# Altium integrated library Microchip PIC18.IntLib: 1897 symbols (part 37 of 110)
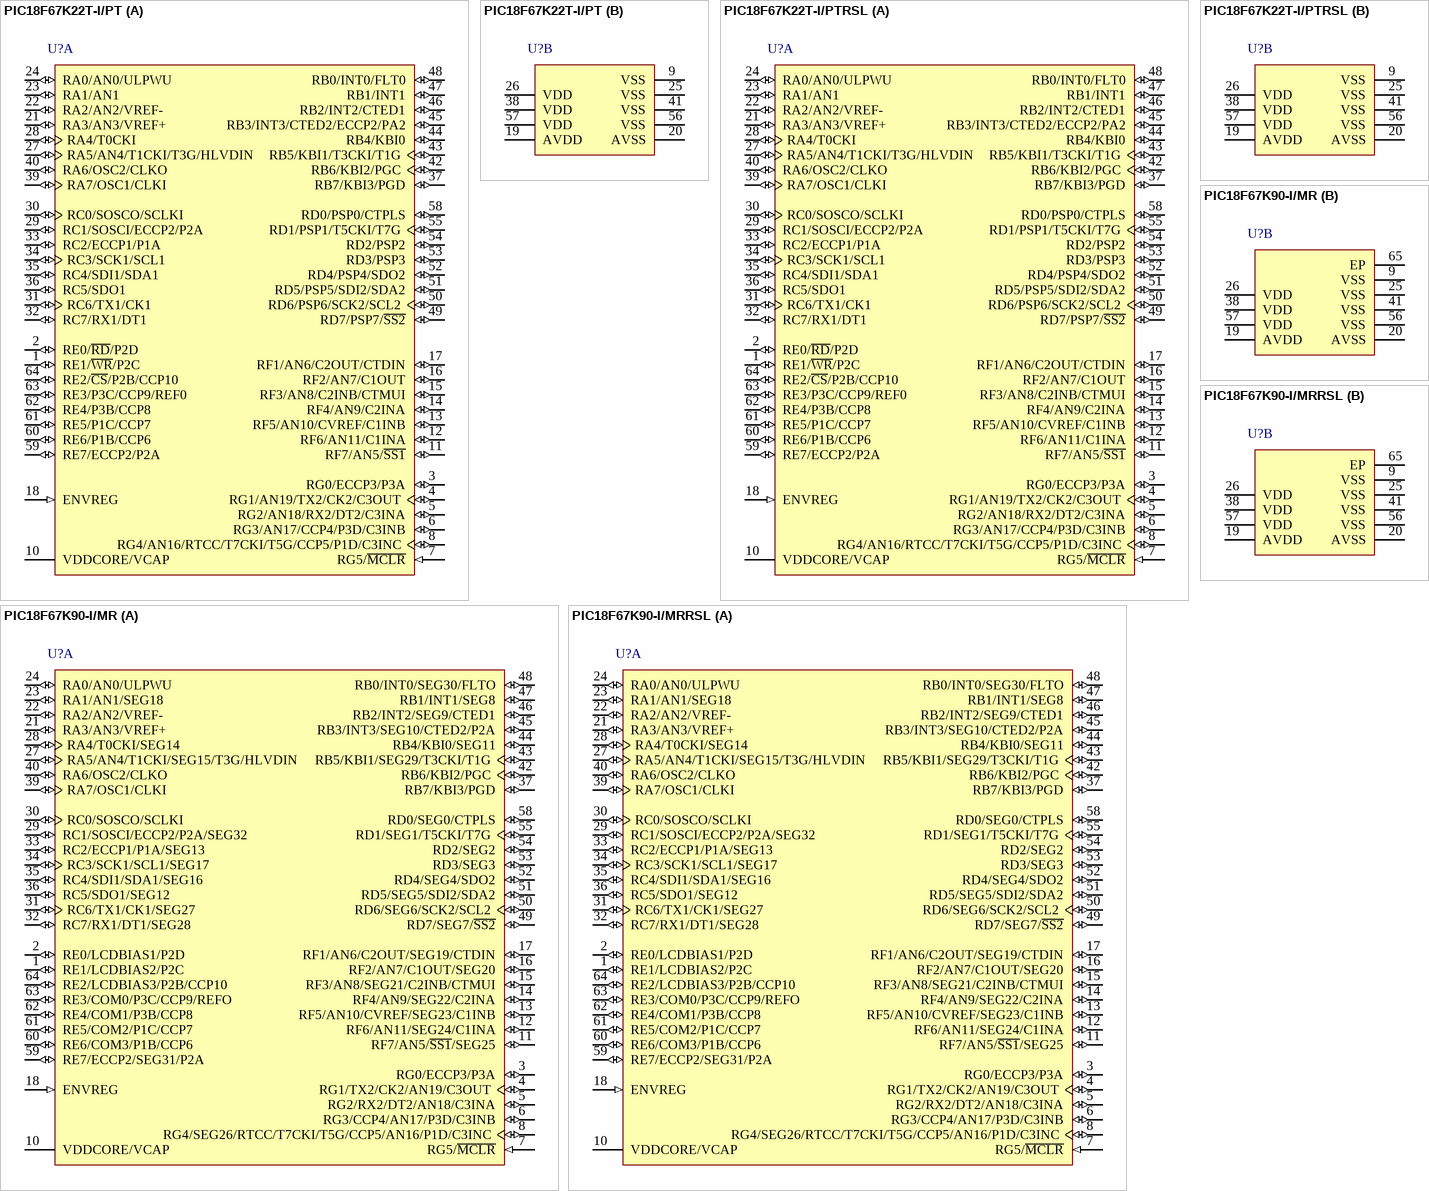
[diagram p241: symbols PIC18F67K22T-I/PT to PIC18F67K90-I/MRRSL]

## PIC18F67K90-I/MR
designator U?
High-Performance Microcontroller with LCD Driver and nanoWatt XLP Technology, 64 MHz, 53 I/O, -40 to 85 degC, 64-pin QFN (MR64), Tube; Manufacturer: Microchip; PartNumber: PIC18F67K90-I/MR; # of A/D Channels: 16; Digital Communication: 2 -A/E/USART, 2 -MSSP(SPI/I2C); EEPROM Data Memory (bytes): 1024; I/O Pins: 53; Internal Oscillator: 16 MHz, 31 kHz; Max. CPU Speed MHz: 64; Memory Type: Flash; Operation Voltage Range: 1.8V - 5.5V; Program Memory KBytes: 128; RAM: 3828; Timers: 6 - 8-bit, 5 - 16-bit; DatasheetVersion: Rev. D; PackageVersion: C04-213A, 04/2013; PackageReference: QFN-MR64; PackageDescription: 64-Lead Plastic Quad Flat, No Lead Package, Body 9 x 9 mm, Pitch 0.5 mm; Supplier 1: Digi-Key; Supplier Part Number 1: PIC18F67K90-I/MR-ND; Supplier 2: Mouser; Supplier Part Number 2: 579-PIC18F67K90-I/MR; Packing: TUBE; Program Memory KWords: 64; RoHS: TRUE; Mounting Technology: Surface Mount; ComponentLink1Description: Datasheet; ComponentLink1URL: http://ww1.microchip.com/downloads/en/DeviceDoc/39957d.pdf; ComponentLink2Description: Package Specification; ComponentLink2URL: http://www.microchip.com/stellent/groups/techpub_sg/documents/packagingspec/en012702.pdf; ComponentLink3Description: URL Link1; ComponentLink3URL: Product URL:http://www.microchip.com/datasheet/PIC18F67K90
footprint MCHP-QFN-MR64-7700X7700TP_N (QFN, 64-Leads, Body 9x9mm, Pitch 0.5mm, Thermal Pad 7.7x7.7mm, IPC Medium Density)
footprint MCHP-QFN-MR64-7700X7700TP_L (QFN, 64-Leads, Body 9x9mm, Pitch 0.5mm, Thermal Pad 7.7x7.7mm, IPC High Density)
footprint MCHP-QFN-MR64-7700X7700TP_M (QFN, 64-Leads, Body 9x9mm, Pitch 0.5mm, Thermal Pad 7.7x7.7mm, IPC Low Density)
part A pins: 1 RE1/LCDBIAS2/P2C (io), 2 RE0/LCDBIAS1/P2D (io), 3 RG0/ECCP3/P3A (io), 4 RG1/TX2/CK2/AN19/C3OUT (io), 5 RG2/RX2/DT2/AN18/C3INA (io), 6 RG3/CCP4/AN17/P3D/C3INB (io), 7 RG5/~{MCLR} (in), 8 RG4/SEG26/RTCC/T7CKI/T5G/CCP5/AN16/P1D/C3INC (io), 10 VDDCORE/VCAP (power), 11 RF7/AN5/~{SS1}/SEG25 (io), 12 RF6/AN11/SEG24/C1INA (io), 13 RF5/AN10/CVREF/SEG23/C1INB (io), 14 RF4/AN9/SEG22/C2INA (io), 15 RF3/AN8/SEG21/C2INB/CTMUI (io), 16 RF2/AN7/C1OUT/SEG20 (io), 17 RF1/AN6/C2OUT/SEG19/CTDIN (io), 18 ENVREG (in) "Enable for on-chip voltage regulator.", 21 RA3/AN3/VREF+ (io), 22 RA2/AN2/VREF- (io), 23 RA1/AN1/SEG18 (io), 24 RA0/AN0/ULPWU (io), 27 RA5/AN4/T1CKI/SEG15/T3G/HLVDIN (io), 28 RA4/T0CKI/SEG14 (io), 29 RC1/SOSCI/ECCP2/P2A/SEG32 (io), 30 RC0/SOSCO/SCLKI (io), 31 RC6/TX1/CK1/SEG27 (io), 32 RC7/RX1/DT1/SEG28 (io), 33 RC2/ECCP1/P1A/SEG13 (io), 34 RC3/SCK1/SCL1/SEG17 (io), 35 RC4/SDI1/SDA1/SEG16 (io), 36 RC5/SDO1/SEG12 (io), 37 RB7/KBI3/PGD (io), 39 RA7/OSC1/CLKI (io), 40 RA6/OSC2/CLKO (io), 42 RB6/KBI2/PGC (io), 43 RB5/KBI1/SEG29/T3CKI/T1G (io), 44 RB4/KBI0/SEG11 (io), 45 RB3/INT3/SEG10/CTED2/P2A (io), 46 RB2/INT2/SEG9/CTED1 (io), 47 RB1/INT1/SEG8 (io), 48 RB0/INT0/SEG30/FLTO (io), 49 RD7/SEG7/~{SS2} (io), 50 RD6/SEG6/SCK2/SCL2 (io), 51 RD5/SEG5/SDI2/SDA2 (io), 52 RD4/SEG4/SDO2 (io), 53 RD3/SEG3 (io), 54 RD2/SEG2 (io), 55 RD1/SEG1/T5CKI/T7G (io), 58 RD0/SEG0/CTPLS (io), 59 RE7/ECCP2/SEG31/P2A (io), 60 RE6/COM3/P1B/CCP6 (io), 61 RE5/COM2/P1C/CCP7 (io), 62 RE4/COM1/P3B/CCP8 (io), 63 RE3/COM0/P3C/CCP9/REFO (io), 64 RE2/LCDBIAS3/P2B/CCP10 (io)
part B pins: 9 VSS (power) "Ground reference for logic and I/O pins.", 19 AVDD (power) "Ground reference for analog modules.", 20 AVSS (power) "Positive supply for analog modules.", 25 VSS (power) "Ground reference for logic and I/O pins.", 26 VDD (power) "Positive supply for logic and I/O pins.", 38 VDD (power) "Positive supply for logic and I/O pins.", 41 VSS (power) "Ground reference for logic and I/O pins.", 56 VSS (power) "Ground reference for logic and I/O pins.", 57 VDD (power) "Positive supply for logic and I/O pins.", 65 EP (power)

## PIC18F67K90-I/MRRSL
designator U?
High-Performance Microcontroller with LCD Driver and nanoWatt XLP Technology, 64 MHz, 53 I/O, -40 to 85 degC, 64-pin QFN (MR64), Tube; Manufacturer: Microchip; PartNumber: PIC18F67K90-I/MRRSL; # of A/D Channels: 16; Digital Communication: 2 -A/E/USART, 2 -MSSP(SPI/I2C); EEPROM Data Memory (bytes): 1024; I/O Pins: 53; Internal Oscillator: 16 MHz, 31 kHz; Max. CPU Speed MHz: 64; Memory Type: Flash; Operation Voltage Range: 1.8V - 5.5V; Program Memory KBytes: 128; RAM: 3828; Timers: 6 - 8-bit, 5 - 16-bit; DatasheetVersion: Rev. D; PackageVersion: C04-213A, 04/2013; PackageReference: QFN-MR64; PackageDescription: 64-Lead Plastic Quad Flat, No Lead Package, Body 9 x 9 mm, Pitch 0.5 mm; Supplier 1: Digi-Key; Supplier Part Number 1: PIC18F67K90-I/MRRSL-ND; Supplier 2: Newark; Supplier Part Number 2: 25R8350; Supplier 3: Mouser; Supplier Part Number 3: 579-PIC18F67K90IMRRS; Packing: TUBE; Program Memory KWords: 64; RoHS: TRUE; Mounting Technology: Surface Mount; ComponentLink1Description: Datasheet; ComponentLink1URL: http://ww1.microchip.com/downloads/en/DeviceDoc/39957d.pdf; ComponentLink2Description: Package Specification; ComponentLink2URL: http://www.microchip.com/stellent/groups/techpub_sg/documents/packagingspec/en012702.pdf; ComponentLink3Description: URL Link1; ComponentLink3URL: Product URL:http://www.microchip.com/datasheet/PIC18F67K90
footprint MCHP-QFN-MR64-7700X7700TP_N (QFN, 64-Leads, Body 9x9mm, Pitch 0.5mm, Thermal Pad 7.7x7.7mm, IPC Medium Density)
footprint MCHP-QFN-MR64-7700X7700TP_L (QFN, 64-Leads, Body 9x9mm, Pitch 0.5mm, Thermal Pad 7.7x7.7mm, IPC High Density)
footprint MCHP-QFN-MR64-7700X7700TP_M (QFN, 64-Leads, Body 9x9mm, Pitch 0.5mm, Thermal Pad 7.7x7.7mm, IPC Low Density)
part A pins: 1 RE1/LCDBIAS2/P2C (io), 2 RE0/LCDBIAS1/P2D (io), 3 RG0/ECCP3/P3A (io), 4 RG1/TX2/CK2/AN19/C3OUT (io), 5 RG2/RX2/DT2/AN18/C3INA (io), 6 RG3/CCP4/AN17/P3D/C3INB (io), 7 RG5/~{MCLR} (in), 8 RG4/SEG26/RTCC/T7CKI/T5G/CCP5/AN16/P1D/C3INC (io), 10 VDDCORE/VCAP (power), 11 RF7/AN5/~{SS1}/SEG25 (io), 12 RF6/AN11/SEG24/C1INA (io), 13 RF5/AN10/CVREF/SEG23/C1INB (io), 14 RF4/AN9/SEG22/C2INA (io), 15 RF3/AN8/SEG21/C2INB/CTMUI (io), 16 RF2/AN7/C1OUT/SEG20 (io), 17 RF1/AN6/C2OUT/SEG19/CTDIN (io), 18 ENVREG (in) "Enable for on-chip voltage regulator.", 21 RA3/AN3/VREF+ (io), 22 RA2/AN2/VREF- (io), 23 RA1/AN1/SEG18 (io), 24 RA0/AN0/ULPWU (io), 27 RA5/AN4/T1CKI/SEG15/T3G/HLVDIN (io), 28 RA4/T0CKI/SEG14 (io), 29 RC1/SOSCI/ECCP2/P2A/SEG32 (io), 30 RC0/SOSCO/SCLKI (io), 31 RC6/TX1/CK1/SEG27 (io), 32 RC7/RX1/DT1/SEG28 (io), 33 RC2/ECCP1/P1A/SEG13 (io), 34 RC3/SCK1/SCL1/SEG17 (io), 35 RC4/SDI1/SDA1/SEG16 (io), 36 RC5/SDO1/SEG12 (io), 37 RB7/KBI3/PGD (io), 39 RA7/OSC1/CLKI (io), 40 RA6/OSC2/CLKO (io), 42 RB6/KBI2/PGC (io), 43 RB5/KBI1/SEG29/T3CKI/T1G (io), 44 RB4/KBI0/SEG11 (io), 45 RB3/INT3/SEG10/CTED2/P2A (io), 46 RB2/INT2/SEG9/CTED1 (io), 47 RB1/INT1/SEG8 (io), 48 RB0/INT0/SEG30/FLTO (io), 49 RD7/SEG7/~{SS2} (io), 50 RD6/SEG6/SCK2/SCL2 (io), 51 RD5/SEG5/SDI2/SDA2 (io), 52 RD4/SEG4/SDO2 (io), 53 RD3/SEG3 (io), 54 RD2/SEG2 (io), 55 RD1/SEG1/T5CKI/T7G (io), 58 RD0/SEG0/CTPLS (io), 59 RE7/ECCP2/SEG31/P2A (io), 60 RE6/COM3/P1B/CCP6 (io), 61 RE5/COM2/P1C/CCP7 (io), 62 RE4/COM1/P3B/CCP8 (io), 63 RE3/COM0/P3C/CCP9/REFO (io), 64 RE2/LCDBIAS3/P2B/CCP10 (io)
part B pins: 9 VSS (power) "Ground reference for logic and I/O pins.", 19 AVDD (power) "Ground reference for analog modules.", 20 AVSS (power) "Positive supply for analog modules.", 25 VSS (power) "Ground reference for logic and I/O pins.", 26 VDD (power) "Positive supply for logic and I/O pins.", 38 VDD (power) "Positive supply for logic and I/O pins.", 41 VSS (power) "Ground reference for logic and I/O pins.", 56 VSS (power) "Ground reference for logic and I/O pins.", 57 VDD (power) "Positive supply for logic and I/O pins.", 65 EP (power)

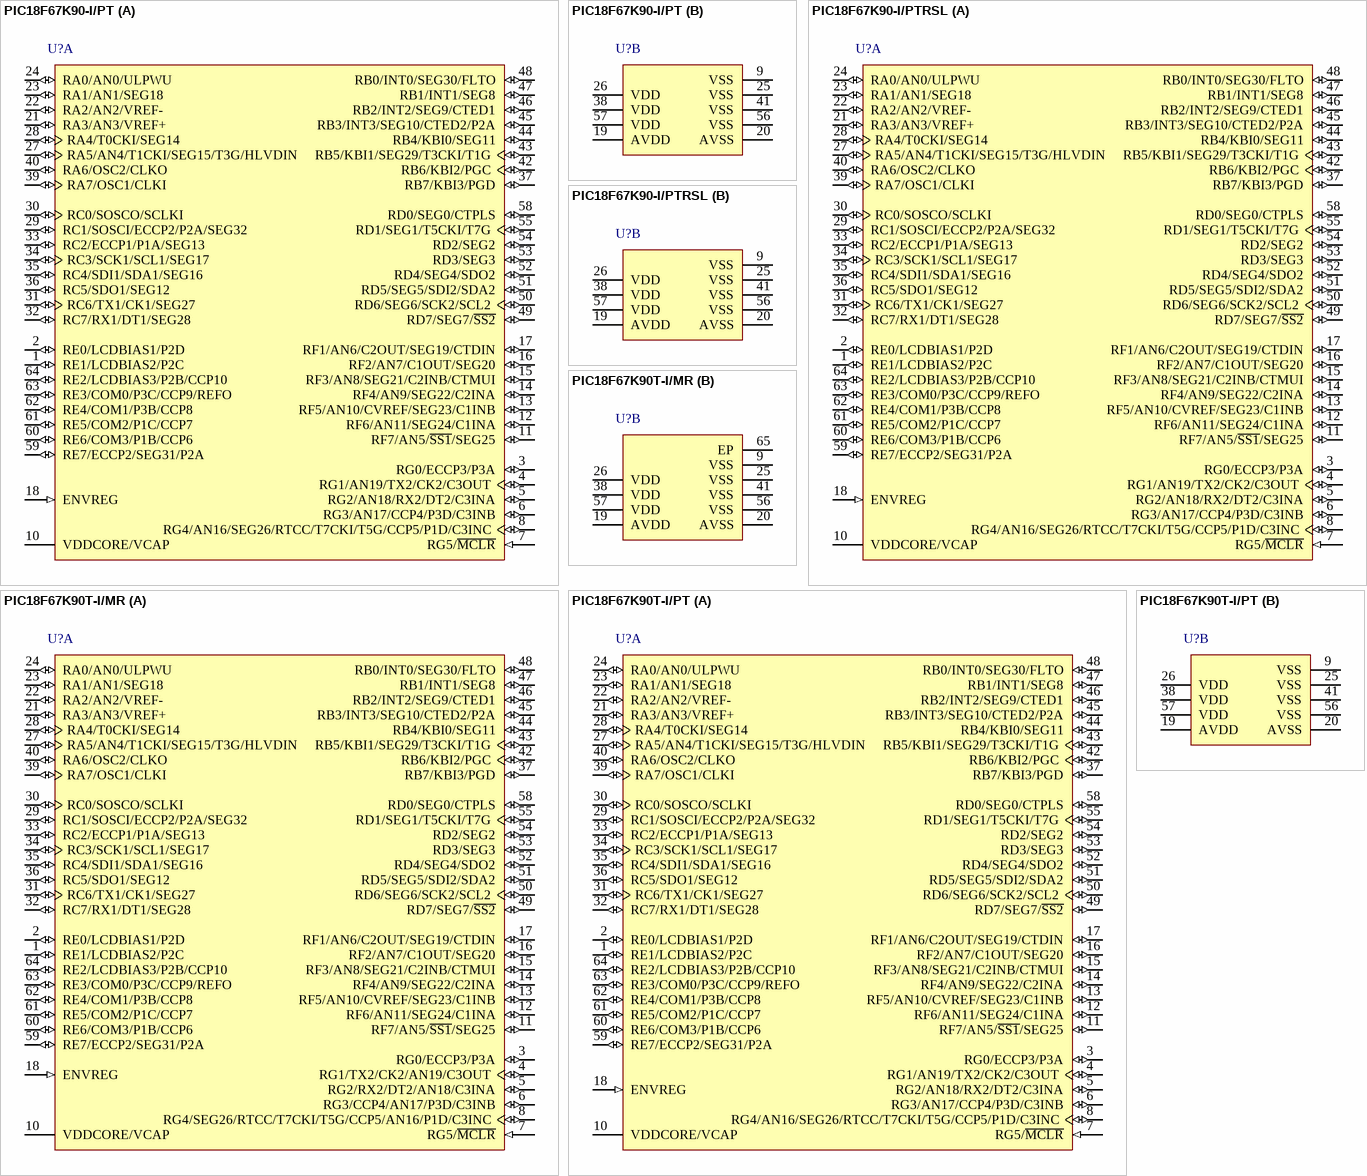
[diagram p61: symbols PIC18F67K90-I/PT to PIC18F67K90T-I/PT]

## PIC18F67K90-I/PT
designator U?
High-Performance Microcontroller with LCD Driver and nanoWatt XLP Technology, 64 MHz, 53 I/O, -40 to 85 degC, 64-pin TQFP (PT64), Tray; Manufacturer: Microchip; PartNumber: PIC18F67K90-I/PT; # of A/D Channels: 16; Digital Communication: 2 -A/E/USART, 2 -MSSP(SPI/I2C); EEPROM Data Memory (bytes): 1024; I/O Pins: 53; Internal Oscillator: 16 MHz, 31 kHz; Max. CPU Speed MHz: 64; Memory Type: Flash; Operation Voltage Range: 1.8V - 5.5V; Program Memory KBytes: 128; RAM: 3828; Timers: 6 - 8-bit, 5 - 16-bit; DatasheetVersion: Rev. D; PackageVersion: C04-085B, 12/2012; PackageReference: TQFP-PT64; PackageDescription: 64-Lead Plastic Thin Quad FlatPack, 10 x 10 mm Body, 0.5 mm Pitch; Supplier 1: Digi-Key; Supplier Part Number 1: PIC18F67K90-I/PT-ND; Supplier 2: Newark; Supplier Part Number 2: 41T4374; Supplier 3: Mouser; Supplier Part Number 3: 579-PIC18F67K90-I/PT; Packing: TRAY; Program Memory KWords: 64; RoHS: TRUE; Mounting Technology: Surface Mount; ComponentLink1Description: Datasheet; ComponentLink1URL: http://ww1.microchip.com/downloads/en/DeviceDoc/39957d.pdf; ComponentLink2Description: Package Specification; ComponentLink2URL: http://www.microchip.com/stellent/groups/techpub_sg/documents/packagingspec/en012702.pdf; ComponentLink3Description: URL Link1; ComponentLink3URL: Product URL:http://www.microchip.com/datasheet/PIC18F67K90
footprint MCHP-TQFP-PT64_N (TQFP, 64-Leads, Body 10x10mm, Pitch 0.5mm, IPC Medium Density)
footprint MCHP-TQFP-PT64_L (TQFP, 64-Leads, Body 10x10mm, Pitch 0.5mm, IPC High Density)
footprint MCHP-TQFP-PT64_M (TQFP, 64-Leads, Body 10x10mm, Pitch 0.5mm, IPC Low Density)
part A pins: 1 RE1/LCDBIAS2/P2C (io), 2 RE0/LCDBIAS1/P2D (io), 3 RG0/ECCP3/P3A (io), 4 RG1/AN19/TX2/CK2/C3OUT (io), 5 RG2/AN18/RX2/DT2/C3INA (io), 6 RG3/AN17/CCP4/P3D/C3INB (io), 7 RG5/~{MCLR} (in), 8 RG4/AN16/SEG26/RTCC/T7CKI/T5G/CCP5/P1D/C3INC (io), 10 VDDCORE/VCAP (power), 11 RF7/AN5/~{SS1}/SEG25 (io), 12 RF6/AN11/SEG24/C1INA (io), 13 RF5/AN10/CVREF/SEG23/C1INB (io), 14 RF4/AN9/SEG22/C2INA (io), 15 RF3/AN8/SEG21/C2INB/CTMUI (io), 16 RF2/AN7/C1OUT/SEG20 (io), 17 RF1/AN6/C2OUT/SEG19/CTDIN (io), 18 ENVREG (in) "Enable for on-chip voltage regulator.", 21 RA3/AN3/VREF+ (io), 22 RA2/AN2/VREF- (io), 23 RA1/AN1/SEG18 (io), 24 RA0/AN0/ULPWU (io), 27 RA5/AN4/T1CKI/SEG15/T3G/HLVDIN (io), 28 RA4/T0CKI/SEG14 (io), 29 RC1/SOSCI/ECCP2/P2A/SEG32 (io), 30 RC0/SOSCO/SCLKI (io), 31 RC6/TX1/CK1/SEG27 (io), 32 RC7/RX1/DT1/SEG28 (io), 33 RC2/ECCP1/P1A/SEG13 (io), 34 RC3/SCK1/SCL1/SEG17 (io), 35 RC4/SDI1/SDA1/SEG16 (io), 36 RC5/SDO1/SEG12 (io), 37 RB7/KBI3/PGD (io), 39 RA7/OSC1/CLKI (io), 40 RA6/OSC2/CLKO (io), 42 RB6/KBI2/PGC (io), 43 RB5/KBI1/SEG29/T3CKI/T1G (io), 44 RB4/KBI0/SEG11 (io), 45 RB3/INT3/SEG10/CTED2/P2A (io), 46 RB2/INT2/SEG9/CTED1 (io), 47 RB1/INT1/SEG8 (io), 48 RB0/INT0/SEG30/FLTO (io), 49 RD7/SEG7/~{SS2} (io), 50 RD6/SEG6/SCK2/SCL2 (io), 51 RD5/SEG5/SDI2/SDA2 (io), 52 RD4/SEG4/SDO2 (io), 53 RD3/SEG3 (io), 54 RD2/SEG2 (io), 55 RD1/SEG1/T5CKI/T7G (io), 58 RD0/SEG0/CTPLS (io), 59 RE7/ECCP2/SEG31/P2A (io), 60 RE6/COM3/P1B/CCP6 (io), 61 RE5/COM2/P1C/CCP7 (io), 62 RE4/COM1/P3B/CCP8 (io), 63 RE3/COM0/P3C/CCP9/REFO (io), 64 RE2/LCDBIAS3/P2B/CCP10 (io)
part B pins: 9 VSS (power) "Ground reference for logic and I/O pins.", 19 AVDD (power) "Ground reference for analog modules.", 20 AVSS (power) "Positive supply for analog modules.", 25 VSS (power) "Ground reference for logic and I/O pins.", 26 VDD (power) "Positive supply for logic and I/O pins.", 38 VDD (power) "Positive supply for logic and I/O pins.", 41 VSS (power) "Ground reference for logic and I/O pins.", 56 VSS (power) "Ground reference for logic and I/O pins.", 57 VDD (power) "Positive supply for logic and I/O pins."

## PIC18F67K90-I/PTRSL
designator U?
High-Performance Microcontroller with LCD Driver and nanoWatt XLP Technology, 64 MHz, 53 I/O, -40 to 85 degC, 64-pin TQFP (PT64), Tray; Manufacturer: Microchip; PartNumber: PIC18F67K90-I/PTRSL; # of A/D Channels: 16; Digital Communication: 2 -A/E/USART, 2 -MSSP(SPI/I2C); EEPROM Data Memory (bytes): 1024; I/O Pins: 53; Internal Oscillator: 16 MHz, 31 kHz; Max. CPU Speed MHz: 64; Memory Type: Flash; Operation Voltage Range: 1.8V - 5.5V; Program Memory KBytes: 128; RAM: 3828; Timers: 6 - 8-bit, 5 - 16-bit; DatasheetVersion: Rev. D; PackageVersion: C04-085B, 12/2012; PackageReference: TQFP-PT64; PackageDescription: 64-Lead Plastic Thin Quad FlatPack, 10 x 10 mm Body, 0.5 mm Pitch; Supplier 1: Digi-Key; Supplier Part Number 1: PIC18F67K90-I/PTRSL-ND; Supplier 2: Farnell; Supplier Part Number 2: 1826228; Supplier 3: Farnell; Supplier Part Number 3: 1826228MPKG; Supplier 4: Newark; Supplier Part Number 4: 25R8351; Supplier 5: Mouser; Supplier Part Number 5: 579-PIC18F67K90IPTRS; Packing: TRAY; Program Memory KWords: 64; RoHS: TRUE; Mounting Technology: Surface Mount; ComponentLink1Description: Datasheet; ComponentLink1URL: http://ww1.microchip.com/downloads/en/DeviceDoc/39957d.pdf; ComponentLink2Description: Package Specification; ComponentLink2URL: http://www.microchip.com/stellent/groups/techpub_sg/documents/packagingspec/en012702.pdf; ComponentLink3Description: URL Link1; ComponentLink3URL: Product URL:http://www.microchip.com/datasheet/PIC18F67K90
footprint MCHP-TQFP-PT64_N (TQFP, 64-Leads, Body 10x10mm, Pitch 0.5mm, IPC Medium Density)
footprint MCHP-TQFP-PT64_L (TQFP, 64-Leads, Body 10x10mm, Pitch 0.5mm, IPC High Density)
footprint MCHP-TQFP-PT64_M (TQFP, 64-Leads, Body 10x10mm, Pitch 0.5mm, IPC Low Density)
part A pins: 1 RE1/LCDBIAS2/P2C (io), 2 RE0/LCDBIAS1/P2D (io), 3 RG0/ECCP3/P3A (io), 4 RG1/AN19/TX2/CK2/C3OUT (io), 5 RG2/AN18/RX2/DT2/C3INA (io), 6 RG3/AN17/CCP4/P3D/C3INB (io), 7 RG5/~{MCLR} (in), 8 RG4/AN16/SEG26/RTCC/T7CKI/T5G/CCP5/P1D/C3INC (io), 10 VDDCORE/VCAP (power), 11 RF7/AN5/~{SS1}/SEG25 (io), 12 RF6/AN11/SEG24/C1INA (io), 13 RF5/AN10/CVREF/SEG23/C1INB (io), 14 RF4/AN9/SEG22/C2INA (io), 15 RF3/AN8/SEG21/C2INB/CTMUI (io), 16 RF2/AN7/C1OUT/SEG20 (io), 17 RF1/AN6/C2OUT/SEG19/CTDIN (io), 18 ENVREG (in) "Enable for on-chip voltage regulator.", 21 RA3/AN3/VREF+ (io), 22 RA2/AN2/VREF- (io), 23 RA1/AN1/SEG18 (io), 24 RA0/AN0/ULPWU (io), 27 RA5/AN4/T1CKI/SEG15/T3G/HLVDIN (io), 28 RA4/T0CKI/SEG14 (io), 29 RC1/SOSCI/ECCP2/P2A/SEG32 (io), 30 RC0/SOSCO/SCLKI (io), 31 RC6/TX1/CK1/SEG27 (io), 32 RC7/RX1/DT1/SEG28 (io), 33 RC2/ECCP1/P1A/SEG13 (io), 34 RC3/SCK1/SCL1/SEG17 (io), 35 RC4/SDI1/SDA1/SEG16 (io), 36 RC5/SDO1/SEG12 (io), 37 RB7/KBI3/PGD (io), 39 RA7/OSC1/CLKI (io), 40 RA6/OSC2/CLKO (io), 42 RB6/KBI2/PGC (io), 43 RB5/KBI1/SEG29/T3CKI/T1G (io), 44 RB4/KBI0/SEG11 (io), 45 RB3/INT3/SEG10/CTED2/P2A (io), 46 RB2/INT2/SEG9/CTED1 (io), 47 RB1/INT1/SEG8 (io), 48 RB0/INT0/SEG30/FLTO (io), 49 RD7/SEG7/~{SS2} (io), 50 RD6/SEG6/SCK2/SCL2 (io), 51 RD5/SEG5/SDI2/SDA2 (io), 52 RD4/SEG4/SDO2 (io), 53 RD3/SEG3 (io), 54 RD2/SEG2 (io), 55 RD1/SEG1/T5CKI/T7G (io), 58 RD0/SEG0/CTPLS (io), 59 RE7/ECCP2/SEG31/P2A (io), 60 RE6/COM3/P1B/CCP6 (io), 61 RE5/COM2/P1C/CCP7 (io), 62 RE4/COM1/P3B/CCP8 (io), 63 RE3/COM0/P3C/CCP9/REFO (io), 64 RE2/LCDBIAS3/P2B/CCP10 (io)
part B pins: 9 VSS (power) "Ground reference for logic and I/O pins.", 19 AVDD (power) "Ground reference for analog modules.", 20 AVSS (power) "Positive supply for analog modules.", 25 VSS (power) "Ground reference for logic and I/O pins.", 26 VDD (power) "Positive supply for logic and I/O pins.", 38 VDD (power) "Positive supply for logic and I/O pins.", 41 VSS (power) "Ground reference for logic and I/O pins.", 56 VSS (power) "Ground reference for logic and I/O pins.", 57 VDD (power) "Positive supply for logic and I/O pins."

## PIC18F67K90T-I/MR
designator U?
High-Performance Microcontroller with LCD Driver and nanoWatt XLP Technology, 64 MHz, 53 I/O, -40 to 85 degC, 64-pin QFN (MR64), Tape and Reel; Manufacturer: Microchip; PartNumber: PIC18F67K90T-I/MR; # of A/D Channels: 16; Digital Communication: 2 -A/E/USART, 2 -MSSP(SPI/I2C); EEPROM Data Memory (bytes): 1024; I/O Pins: 53; Internal Oscillator: 16 MHz, 31 kHz; Max. CPU Speed MHz: 64; Memory Type: Flash; Operation Voltage Range: 1.8V - 5.5V; Packing: T/R; Program Memory KBytes: 128; RAM: 3828; Timers: 6 - 8-bit, 5 - 16-bit; DatasheetVersion: Rev. D; PackageVersion: C04-213A, 04/2013; PackageReference: QFN-MR64; PackageDescription: 64-Lead Plastic Quad Flat, No Lead Package, Body 9 x 9 mm, Pitch 0.5 mm; Supplier 1: Digi-Key; Supplier Part Number 1: PIC18F67K90T-I/MR-ND; Supplier 2: Mouser; Supplier Part Number 2: 579-PIC18F67K90TI/MR; Program Memory KWords: 64; RoHS: TRUE; Mounting Technology: Surface Mount; ComponentLink1Description: Datasheet; ComponentLink1URL: http://ww1.microchip.com/downloads/en/DeviceDoc/39957d.pdf; ComponentLink2Description: Package Specification; ComponentLink2URL: http://www.microchip.com/stellent/groups/techpub_sg/documents/packagingspec/en012702.pdf; ComponentLink3Description: URL Link1; ComponentLink3URL: Product URL:http://www.microchip.com/datasheet/PIC18F67K90
footprint MCHP-QFN-MR64-7700X7700TP_N (QFN, 64-Leads, Body 9x9mm, Pitch 0.5mm, Thermal Pad 7.7x7.7mm, IPC Medium Density)
footprint MCHP-QFN-MR64-7700X7700TP_L (QFN, 64-Leads, Body 9x9mm, Pitch 0.5mm, Thermal Pad 7.7x7.7mm, IPC High Density)
footprint MCHP-QFN-MR64-7700X7700TP_M (QFN, 64-Leads, Body 9x9mm, Pitch 0.5mm, Thermal Pad 7.7x7.7mm, IPC Low Density)
part A pins: 1 RE1/LCDBIAS2/P2C (io), 2 RE0/LCDBIAS1/P2D (io), 3 RG0/ECCP3/P3A (io), 4 RG1/TX2/CK2/AN19/C3OUT (io), 5 RG2/RX2/DT2/AN18/C3INA (io), 6 RG3/CCP4/AN17/P3D/C3INB (io), 7 RG5/~{MCLR} (in), 8 RG4/SEG26/RTCC/T7CKI/T5G/CCP5/AN16/P1D/C3INC (io), 10 VDDCORE/VCAP (power), 11 RF7/AN5/~{SS1}/SEG25 (io), 12 RF6/AN11/SEG24/C1INA (io), 13 RF5/AN10/CVREF/SEG23/C1INB (io), 14 RF4/AN9/SEG22/C2INA (io), 15 RF3/AN8/SEG21/C2INB/CTMUI (io), 16 RF2/AN7/C1OUT/SEG20 (io), 17 RF1/AN6/C2OUT/SEG19/CTDIN (io), 18 ENVREG (in) "Enable for on-chip voltage regulator.", 21 RA3/AN3/VREF+ (io), 22 RA2/AN2/VREF- (io), 23 RA1/AN1/SEG18 (io), 24 RA0/AN0/ULPWU (io), 27 RA5/AN4/T1CKI/SEG15/T3G/HLVDIN (io), 28 RA4/T0CKI/SEG14 (io), 29 RC1/SOSCI/ECCP2/P2A/SEG32 (io), 30 RC0/SOSCO/SCLKI (io), 31 RC6/TX1/CK1/SEG27 (io), 32 RC7/RX1/DT1/SEG28 (io), 33 RC2/ECCP1/P1A/SEG13 (io), 34 RC3/SCK1/SCL1/SEG17 (io), 35 RC4/SDI1/SDA1/SEG16 (io), 36 RC5/SDO1/SEG12 (io), 37 RB7/KBI3/PGD (io), 39 RA7/OSC1/CLKI (io), 40 RA6/OSC2/CLKO (io), 42 RB6/KBI2/PGC (io), 43 RB5/KBI1/SEG29/T3CKI/T1G (io), 44 RB4/KBI0/SEG11 (io), 45 RB3/INT3/SEG10/CTED2/P2A (io), 46 RB2/INT2/SEG9/CTED1 (io), 47 RB1/INT1/SEG8 (io), 48 RB0/INT0/SEG30/FLTO (io), 49 RD7/SEG7/~{SS2} (io), 50 RD6/SEG6/SCK2/SCL2 (io), 51 RD5/SEG5/SDI2/SDA2 (io), 52 RD4/SEG4/SDO2 (io), 53 RD3/SEG3 (io), 54 RD2/SEG2 (io), 55 RD1/SEG1/T5CKI/T7G (io), 58 RD0/SEG0/CTPLS (io), 59 RE7/ECCP2/SEG31/P2A (io), 60 RE6/COM3/P1B/CCP6 (io), 61 RE5/COM2/P1C/CCP7 (io), 62 RE4/COM1/P3B/CCP8 (io), 63 RE3/COM0/P3C/CCP9/REFO (io), 64 RE2/LCDBIAS3/P2B/CCP10 (io)
part B pins: 9 VSS (power) "Ground reference for logic and I/O pins.", 19 AVDD (power) "Ground reference for analog modules.", 20 AVSS (power) "Positive supply for analog modules.", 25 VSS (power) "Ground reference for logic and I/O pins.", 26 VDD (power) "Positive supply for logic and I/O pins.", 38 VDD (power) "Positive supply for logic and I/O pins.", 41 VSS (power) "Ground reference for logic and I/O pins.", 56 VSS (power) "Ground reference for logic and I/O pins.", 57 VDD (power) "Positive supply for logic and I/O pins.", 65 EP (power)

## PIC18F67K90T-I/PT
designator U?
High-Performance Microcontroller with LCD Driver and nanoWatt XLP Technology, 64 MHz, 53 I/O, -40 to 85 degC, 64-pin TQFP (PT64), Tape and Reel; Manufacturer: Microchip; PartNumber: PIC18F67K90T-I/PT; # of A/D Channels: 16; Digital Communication: 2 -A/E/USART, 2 -MSSP(SPI/I2C); EEPROM Data Memory (bytes): 1024; I/O Pins: 53; Internal Oscillator: 16 MHz, 31 kHz; Max. CPU Speed MHz: 64; Memory Type: Flash; Operation Voltage Range: 1.8V - 5.5V; Packing: T/R; Program Memory KBytes: 128; RAM: 3828; Timers: 6 - 8-bit, 5 - 16-bit; DatasheetVersion: Rev. D; PackageVersion: C04-085B, 12/2012; PackageReference: TQFP-PT64; PackageDescription: 64-Lead Plastic Thin Quad FlatPack, 10 x 10 mm Body, 0.5 mm Pitch; Supplier 1: Digi-Key; Supplier Part Number 1: PIC18F67K90T-I/PT-ND; Supplier 2: Mouser; Supplier Part Number 2: 579-PIC18F67K90TI/PT; Program Memory KWords: 64; RoHS: TRUE; Mounting Technology: Surface Mount; ComponentLink1Description: Datasheet; ComponentLink1URL: http://ww1.microchip.com/downloads/en/DeviceDoc/39957d.pdf; ComponentLink2Description: Package Specification; ComponentLink2URL: http://www.microchip.com/stellent/groups/techpub_sg/documents/packagingspec/en012702.pdf; ComponentLink3Description: URL Link1; ComponentLink3URL: Product URL:http://www.microchip.com/datasheet/PIC18F67K90
footprint MCHP-TQFP-PT64_N (TQFP, 64-Leads, Body 10x10mm, Pitch 0.5mm, IPC Medium Density)
footprint MCHP-TQFP-PT64_L (TQFP, 64-Leads, Body 10x10mm, Pitch 0.5mm, IPC High Density)
footprint MCHP-TQFP-PT64_M (TQFP, 64-Leads, Body 10x10mm, Pitch 0.5mm, IPC Low Density)
part A pins: 1 RE1/LCDBIAS2/P2C (io), 2 RE0/LCDBIAS1/P2D (io), 3 RG0/ECCP3/P3A (io), 4 RG1/AN19/TX2/CK2/C3OUT (io), 5 RG2/AN18/RX2/DT2/C3INA (io), 6 RG3/AN17/CCP4/P3D/C3INB (io), 7 RG5/~{MCLR} (in), 8 RG4/AN16/SEG26/RTCC/T7CKI/T5G/CCP5/P1D/C3INC (io), 10 VDDCORE/VCAP (power), 11 RF7/AN5/~{SS1}/SEG25 (io), 12 RF6/AN11/SEG24/C1INA (io), 13 RF5/AN10/CVREF/SEG23/C1INB (io), 14 RF4/AN9/SEG22/C2INA (io), 15 RF3/AN8/SEG21/C2INB/CTMUI (io), 16 RF2/AN7/C1OUT/SEG20 (io), 17 RF1/AN6/C2OUT/SEG19/CTDIN (io), 18 ENVREG (in) "Enable for on-chip voltage regulator.", 21 RA3/AN3/VREF+ (io), 22 RA2/AN2/VREF- (io), 23 RA1/AN1/SEG18 (io), 24 RA0/AN0/ULPWU (io), 27 RA5/AN4/T1CKI/SEG15/T3G/HLVDIN (io), 28 RA4/T0CKI/SEG14 (io), 29 RC1/SOSCI/ECCP2/P2A/SEG32 (io), 30 RC0/SOSCO/SCLKI (io), 31 RC6/TX1/CK1/SEG27 (io), 32 RC7/RX1/DT1/SEG28 (io), 33 RC2/ECCP1/P1A/SEG13 (io), 34 RC3/SCK1/SCL1/SEG17 (io), 35 RC4/SDI1/SDA1/SEG16 (io), 36 RC5/SDO1/SEG12 (io), 37 RB7/KBI3/PGD (io), 39 RA7/OSC1/CLKI (io), 40 RA6/OSC2/CLKO (io), 42 RB6/KBI2/PGC (io), 43 RB5/KBI1/SEG29/T3CKI/T1G (io), 44 RB4/KBI0/SEG11 (io), 45 RB3/INT3/SEG10/CTED2/P2A (io), 46 RB2/INT2/SEG9/CTED1 (io), 47 RB1/INT1/SEG8 (io), 48 RB0/INT0/SEG30/FLTO (io), 49 RD7/SEG7/~{SS2} (io), 50 RD6/SEG6/SCK2/SCL2 (io), 51 RD5/SEG5/SDI2/SDA2 (io), 52 RD4/SEG4/SDO2 (io), 53 RD3/SEG3 (io), 54 RD2/SEG2 (io), 55 RD1/SEG1/T5CKI/T7G (io), 58 RD0/SEG0/CTPLS (io), 59 RE7/ECCP2/SEG31/P2A (io), 60 RE6/COM3/P1B/CCP6 (io), 61 RE5/COM2/P1C/CCP7 (io), 62 RE4/COM1/P3B/CCP8 (io), 63 RE3/COM0/P3C/CCP9/REFO (io), 64 RE2/LCDBIAS3/P2B/CCP10 (io)
part B pins: 9 VSS (power) "Ground reference for logic and I/O pins.", 19 AVDD (power) "Ground reference for analog modules.", 20 AVSS (power) "Positive supply for analog modules.", 25 VSS (power) "Ground reference for logic and I/O pins.", 26 VDD (power) "Positive supply for logic and I/O pins.", 38 VDD (power) "Positive supply for logic and I/O pins.", 41 VSS (power) "Ground reference for logic and I/O pins.", 56 VSS (power) "Ground reference for logic and I/O pins.", 57 VDD (power) "Positive supply for logic and I/O pins."

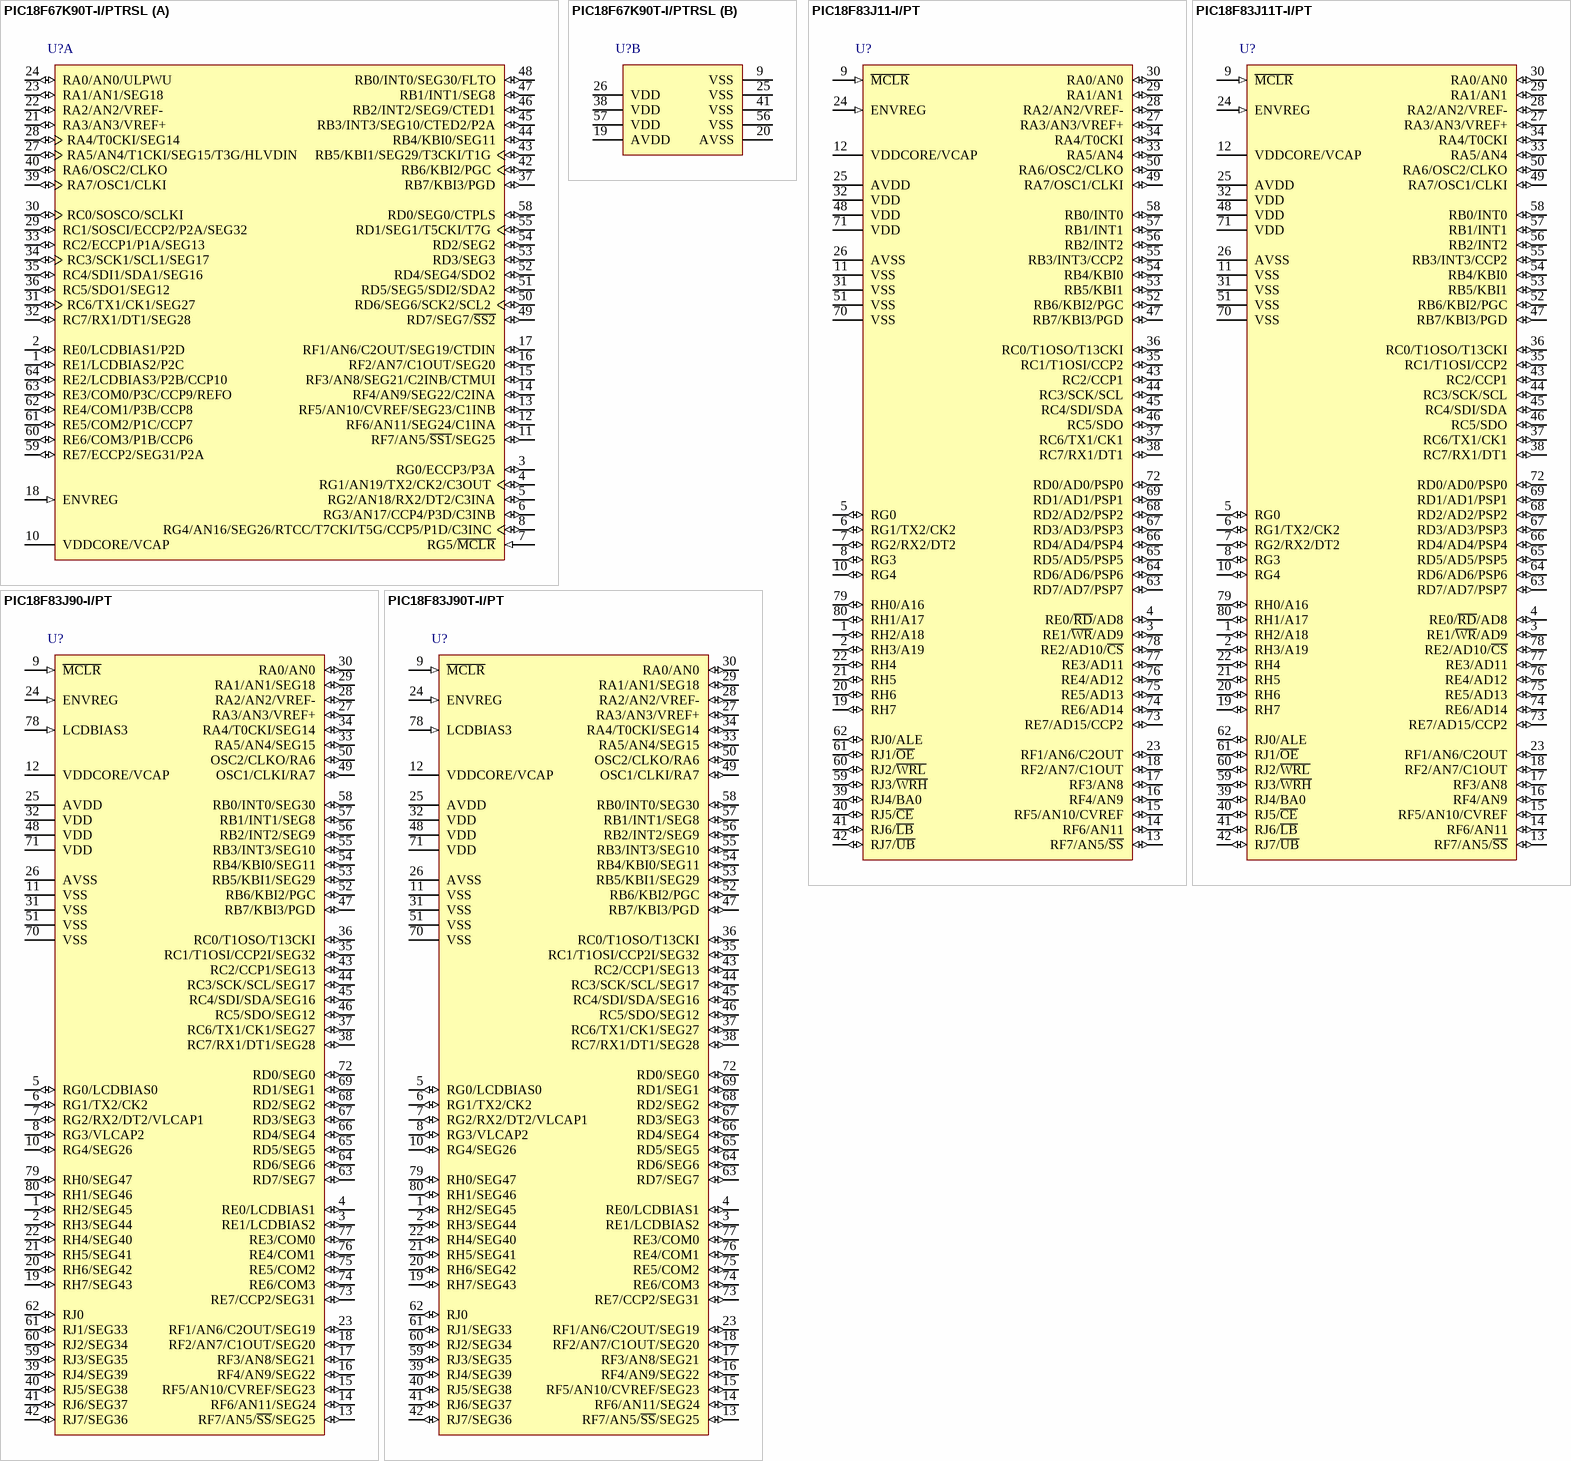
[diagram p62: symbols PIC18F67K90T-I/PTRSL to PIC18F83J90T-I/PT]

## PIC18F67K90T-I/PTRSL
designator U?
High-Performance Microcontroller with LCD Driver and nanoWatt XLP Technology, 64 MHz, 53 I/O, -40 to 85 degC, 64-pin TQFP (PT64), Tape and Reel; Manufacturer: Microchip; PartNumber: PIC18F67K90T-I/PTRSL; # of A/D Channels: 16; Digital Communication: 2 -A/E/USART, 2 -MSSP(SPI/I2C); EEPROM Data Memory (bytes): 1024; I/O Pins: 53; Internal Oscillator: 16 MHz, 31 kHz; Max. CPU Speed MHz: 64; Memory Type: Flash; Operation Voltage Range: 1.8V - 5.5V; Packing: T/R; Program Memory KBytes: 128; RAM: 3828; Timers: 6 - 8-bit, 5 - 16-bit; DatasheetVersion: Rev. D; PackageVersion: C04-085B, 12/2012; PackageReference: TQFP-PT64; PackageDescription: 64-Lead Plastic Thin Quad FlatPack, 10 x 10 mm Body, 0.5 mm Pitch; Supplier 1: Digi-Key; Supplier Part Number 1: PIC18F67K90T-I/PTRSL-ND; Supplier 2: Mouser; Supplier Part Number 2: 579-PIC18F67K90TIPTR; Program Memory KWords: 64; RoHS: TRUE; Mounting Technology: Surface Mount; ComponentLink1Description: Datasheet; ComponentLink1URL: http://ww1.microchip.com/downloads/en/DeviceDoc/39957d.pdf; ComponentLink2Description: Package Specification; ComponentLink2URL: http://www.microchip.com/stellent/groups/techpub_sg/documents/packagingspec/en012702.pdf; ComponentLink3Description: URL Link1; ComponentLink3URL: Product URL:http://www.microchip.com/datasheet/PIC18F67K90
footprint MCHP-TQFP-PT64_N (TQFP, 64-Leads, Body 10x10mm, Pitch 0.5mm, IPC Medium Density)
footprint MCHP-TQFP-PT64_L (TQFP, 64-Leads, Body 10x10mm, Pitch 0.5mm, IPC High Density)
footprint MCHP-TQFP-PT64_M (TQFP, 64-Leads, Body 10x10mm, Pitch 0.5mm, IPC Low Density)
part A pins: 1 RE1/LCDBIAS2/P2C (io), 2 RE0/LCDBIAS1/P2D (io), 3 RG0/ECCP3/P3A (io), 4 RG1/AN19/TX2/CK2/C3OUT (io), 5 RG2/AN18/RX2/DT2/C3INA (io), 6 RG3/AN17/CCP4/P3D/C3INB (io), 7 RG5/~{MCLR} (in), 8 RG4/AN16/SEG26/RTCC/T7CKI/T5G/CCP5/P1D/C3INC (io), 10 VDDCORE/VCAP (power), 11 RF7/AN5/~{SS1}/SEG25 (io), 12 RF6/AN11/SEG24/C1INA (io), 13 RF5/AN10/CVREF/SEG23/C1INB (io), 14 RF4/AN9/SEG22/C2INA (io), 15 RF3/AN8/SEG21/C2INB/CTMUI (io), 16 RF2/AN7/C1OUT/SEG20 (io), 17 RF1/AN6/C2OUT/SEG19/CTDIN (io), 18 ENVREG (in) "Enable for on-chip voltage regulator.", 21 RA3/AN3/VREF+ (io), 22 RA2/AN2/VREF- (io), 23 RA1/AN1/SEG18 (io), 24 RA0/AN0/ULPWU (io), 27 RA5/AN4/T1CKI/SEG15/T3G/HLVDIN (io), 28 RA4/T0CKI/SEG14 (io), 29 RC1/SOSCI/ECCP2/P2A/SEG32 (io), 30 RC0/SOSCO/SCLKI (io), 31 RC6/TX1/CK1/SEG27 (io), 32 RC7/RX1/DT1/SEG28 (io), 33 RC2/ECCP1/P1A/SEG13 (io), 34 RC3/SCK1/SCL1/SEG17 (io), 35 RC4/SDI1/SDA1/SEG16 (io), 36 RC5/SDO1/SEG12 (io), 37 RB7/KBI3/PGD (io), 39 RA7/OSC1/CLKI (io), 40 RA6/OSC2/CLKO (io), 42 RB6/KBI2/PGC (io), 43 RB5/KBI1/SEG29/T3CKI/T1G (io), 44 RB4/KBI0/SEG11 (io), 45 RB3/INT3/SEG10/CTED2/P2A (io), 46 RB2/INT2/SEG9/CTED1 (io), 47 RB1/INT1/SEG8 (io), 48 RB0/INT0/SEG30/FLTO (io), 49 RD7/SEG7/~{SS2} (io), 50 RD6/SEG6/SCK2/SCL2 (io), 51 RD5/SEG5/SDI2/SDA2 (io), 52 RD4/SEG4/SDO2 (io), 53 RD3/SEG3 (io), 54 RD2/SEG2 (io), 55 RD1/SEG1/T5CKI/T7G (io), 58 RD0/SEG0/CTPLS (io), 59 RE7/ECCP2/SEG31/P2A (io), 60 RE6/COM3/P1B/CCP6 (io), 61 RE5/COM2/P1C/CCP7 (io), 62 RE4/COM1/P3B/CCP8 (io), 63 RE3/COM0/P3C/CCP9/REFO (io), 64 RE2/LCDBIAS3/P2B/CCP10 (io)
part B pins: 9 VSS (power) "Ground reference for logic and I/O pins.", 19 AVDD (power) "Ground reference for analog modules.", 20 AVSS (power) "Positive supply for analog modules.", 25 VSS (power) "Ground reference for logic and I/O pins.", 26 VDD (power) "Positive supply for logic and I/O pins.", 38 VDD (power) "Positive supply for logic and I/O pins.", 41 VSS (power) "Ground reference for logic and I/O pins.", 56 VSS (power) "Ground reference for logic and I/O pins.", 57 VDD (power) "Positive supply for logic and I/O pins."

## PIC18F83J11-I/PT
designator U?
High Performance Microcontroller with nanoWatt Technology, 8K Flash, 80-Pin TQFP, Industrial Temperature Range; Manufacturer: Microchip; PartNumber: PIC18F83J11-I/PT; DatasheetVersion: revC, Apr-2007; PackageVersion: C04-092B, 12/2012; PackageReference: TQFP-PT80; PackageDescription: 80-Lead Plastic Thin Quad FlatPack, 12 x 12 mm Body, 0.5 mm Pitch; ComponentLink1Description: Manufacturer URL; ComponentLink1URL: http://www.microchip.com/; ComponentLink2Description: Datasheet; ComponentLink2URL: http://ww1.microchip.com/downloads/en/DeviceDoc/39774c.pdf; ComponentLink3Description: Package Specification; ComponentLink3URL: http://www.microchip.com/stellent/groups/techpub_sg/documents/packagingspec/en012702.pdf
footprint MCHP-TQFP-PT80_N (QFN, 80-Leads, Body 12x12mm, Pitch 0.5mm, IPC Medium Density)
footprint MCHP-TQFP-PT80_L (QFN, 80-Leads, Body 12x12mm, Pitch 0.5mm, IPC High Density)
footprint MCHP-TQFP-PT80_M (QFN, 80-Leads, Body 12x12mm, Pitch 0.5mm, IPC Low Density)
pins: 1 RH2/A18 (io), 2 RH3/A19 (io), 3 RE1/~{WR}/AD9 (io), 4 RE0/~{RD}/AD8 (io), 5 RG0 (io), 6 RG1/TX2/CK2 (io), 7 RG2/RX2/DT2 (io), 8 RG3 (io), 9 ~{MCLR} (in), 10 RG4 (io), 11 VSS (power), 12 VDDCORE/VCAP (power), 13 RF7/AN5/~{SS} (io), 14 RF6/AN11 (io), 15 RF5/AN10/CVREF (io), 16 RF4/AN9 (io), 17 RF3/AN8 (io), 18 RF2/AN7/C1OUT (io), 19 RH7 (io), 20 RH6 (io), 21 RH5 (io), 22 RH4 (io), 23 RF1/AN6/C2OUT (io), 24 ENVREG (in), 25 AVDD (power), 26 AVSS (power), 27 RA3/AN3/VREF+ (io), 28 RA2/AN2/VREF- (io), 29 RA1/AN1 (io), 30 RA0/AN0 (io), 31 VSS (power), 32 VDD (power), 33 RA5/AN4 (io), 34 RA4/T0CKI (io), 35 RC1/T1OSI/CCP2 (io), 36 RC0/T1OSO/T13CKI (io), 37 RC6/TX1/CK1 (io), 38 RC7/RX1/DT1 (io), 39 RJ4/BA0 (io), 40 RJ5/~{CE} (io), 41 RJ6/~{LB} (io), 42 RJ7/~{UB} (io), 43 RC2/CCP1 (io), 44 RC3/SCK/SCL (io), 45 RC4/SDI/SDA (io), 46 RC5/SDO (io), 47 RB7/KBI3/PGD (io), 48 VDD (power), 49 RA7/OSC1/CLKI (io), 50 RA6/OSC2/CLKO (io), 51 VSS (power), 52 RB6/KBI2/PGC (io), 53 RB5/KBI1 (io), 54 RB4/KBI0 (io), 55 RB3/INT3/CCP2 (io), 56 RB2/INT2 (io), 57 RB1/INT1 (io), 58 RB0/INT0 (io), 59 RJ3/~{WRH} (io), 60 RJ2/~{WRL} (io), 61 RJ1/~{OE} (io), 62 RJ0/ALE (io), 63 RD7/AD7/PSP7 (io), 64 RD6/AD6/PSP6 (io), 65 RD5/AD5/PSP5 (io), 66 RD4/AD4/PSP4 (io), 67 RD3/AD3/PSP3 (io), 68 RD2/AD2/PSP2 (io), 69 RD1/AD1/PSP1 (io), 70 VSS (power), 71 VDD (power), 72 RD0/AD0/PSP0 (io), 73 RE7/AD15/CCP2 (io), 74 RE6/AD14 (io), 75 RE5/AD13 (io), 76 RE4/AD12 (io), 77 RE3/AD11 (io), 78 RE2/AD10/~{CS} (io), 79 RH0/A16 (io), 80 RH1/A17 (io)

## PIC18F83J11T-I/PT
designator U?
High Performance Microcontroller with nanoWatt Technology, 8K Flash, 80-Pin TQFP, Industrial Temperature Range, Tape and Reel; Manufacturer: Microchip; PartNumber: PIC18F83J11T-I/PT; DatasheetVersion: revC, Apr-2007; PackageVersion: C04-092B, 12/2012; PackageReference: TQFP-PT80; PackageDescription: 80-Lead Plastic Thin Quad FlatPack, 12 x 12 mm Body, 0.5 mm Pitch; ComponentLink1Description: Manufacturer URL; ComponentLink1URL: http://www.microchip.com/; ComponentLink2Description: Datasheet; ComponentLink2URL: http://ww1.microchip.com/downloads/en/DeviceDoc/39774c.pdf; ComponentLink3Description: Package Specification; ComponentLink3URL: http://www.microchip.com/stellent/groups/techpub_sg/documents/packagingspec/en012702.pdf
footprint MCHP-TQFP-PT80_N (QFN, 80-Leads, Body 12x12mm, Pitch 0.5mm, IPC Medium Density)
footprint MCHP-TQFP-PT80_L (QFN, 80-Leads, Body 12x12mm, Pitch 0.5mm, IPC High Density)
footprint MCHP-TQFP-PT80_M (QFN, 80-Leads, Body 12x12mm, Pitch 0.5mm, IPC Low Density)
pins: 1 RH2/A18 (io), 2 RH3/A19 (io), 3 RE1/~{WR}/AD9 (io), 4 RE0/~{RD}/AD8 (io), 5 RG0 (io), 6 RG1/TX2/CK2 (io), 7 RG2/RX2/DT2 (io), 8 RG3 (io), 9 ~{MCLR} (in), 10 RG4 (io), 11 VSS (power), 12 VDDCORE/VCAP (power), 13 RF7/AN5/~{SS} (io), 14 RF6/AN11 (io), 15 RF5/AN10/CVREF (io), 16 RF4/AN9 (io), 17 RF3/AN8 (io), 18 RF2/AN7/C1OUT (io), 19 RH7 (io), 20 RH6 (io), 21 RH5 (io), 22 RH4 (io), 23 RF1/AN6/C2OUT (io), 24 ENVREG (in), 25 AVDD (power), 26 AVSS (power), 27 RA3/AN3/VREF+ (io), 28 RA2/AN2/VREF- (io), 29 RA1/AN1 (io), 30 RA0/AN0 (io), 31 VSS (power), 32 VDD (power), 33 RA5/AN4 (io), 34 RA4/T0CKI (io), 35 RC1/T1OSI/CCP2 (io), 36 RC0/T1OSO/T13CKI (io), 37 RC6/TX1/CK1 (io), 38 RC7/RX1/DT1 (io), 39 RJ4/BA0 (io), 40 RJ5/~{CE} (io), 41 RJ6/~{LB} (io), 42 RJ7/~{UB} (io), 43 RC2/CCP1 (io), 44 RC3/SCK/SCL (io), 45 RC4/SDI/SDA (io), 46 RC5/SDO (io), 47 RB7/KBI3/PGD (io), 48 VDD (power), 49 RA7/OSC1/CLKI (io), 50 RA6/OSC2/CLKO (io), 51 VSS (power), 52 RB6/KBI2/PGC (io), 53 RB5/KBI1 (io), 54 RB4/KBI0 (io), 55 RB3/INT3/CCP2 (io), 56 RB2/INT2 (io), 57 RB1/INT1 (io), 58 RB0/INT0 (io), 59 RJ3/~{WRH} (io), 60 RJ2/~{WRL} (io), 61 RJ1/~{OE} (io), 62 RJ0/ALE (io), 63 RD7/AD7/PSP7 (io), 64 RD6/AD6/PSP6 (io), 65 RD5/AD5/PSP5 (io), 66 RD4/AD4/PSP4 (io), 67 RD3/AD3/PSP3 (io), 68 RD2/AD2/PSP2 (io), 69 RD1/AD1/PSP1 (io), 70 VSS (power), 71 VDD (power), 72 RD0/AD0/PSP0 (io), 73 RE7/AD15/CCP2 (io), 74 RE6/AD14 (io), 75 RE5/AD13 (io), 76 RE4/AD12 (io), 77 RE3/AD11 (io), 78 RE2/AD10/~{CS} (io), 79 RH0/A16 (io), 80 RH1/A17 (io)

## PIC18F83J90-I/PT
designator U?
High Performance Microcontroller with LCD Driver and nanoWatt Technology, 8K Flash, 80-Pin TQFP, Industrial Temperature Range; Manufacturer: Microchip; PartNumber: PIC18F83J90-I/PT; DatasheetVersion: revB, Mar-2007; PackageVersion: C04-092B, 12/2012; PackageReference: TQFP-PT80; PackageDescription: 80-Lead Plastic Thin Quad FlatPack, 12 x 12 mm Body, 0.5 mm Pitch; ComponentLink1Description: Manufacturer URL; ComponentLink1URL: http://www.microchip.com/; ComponentLink2Description: Datasheet; ComponentLink2URL: http://ww1.microchip.com/downloads/en/DeviceDoc/39770b.pdf; ComponentLink3Description: Package Specification; ComponentLink3URL: http://www.microchip.com/stellent/groups/techpub_sg/documents/packagingspec/en012702.pdf
footprint MCHP-TQFP-PT80_N (QFN, 80-Leads, Body 12x12mm, Pitch 0.5mm, IPC Medium Density)
footprint MCHP-TQFP-PT80_L (QFN, 80-Leads, Body 12x12mm, Pitch 0.5mm, IPC High Density)
footprint MCHP-TQFP-PT80_M (QFN, 80-Leads, Body 12x12mm, Pitch 0.5mm, IPC Low Density)
pins: 1 RH2/SEG45 (io), 2 RH3/SEG44 (io), 3 RE1/LCDBIAS2 (io), 4 RE0/LCDBIAS1 (io), 5 RG0/LCDBIAS0 (io), 6 RG1/TX2/CK2 (io), 7 RG2/RX2/DT2/VLCAP1 (io), 8 RG3/VLCAP2 (io), 9 ~{MCLR} (in), 10 RG4/SEG26 (io), 11 VSS (power), 12 VDDCORE/VCAP (power), 13 RF7/AN5/~{SS}/SEG25 (io), 14 RF6/AN11/SEG24 (io), 15 RF5/AN10/CVREF/SEG23 (io), 16 RF4/AN9/SEG22 (io), 17 RF3/AN8/SEG21 (io), 18 RF2/AN7/C1OUT/SEG20 (io), 19 RH7/SEG43 (io), 20 RH6/SEG42 (io), 21 RH5/SEG41 (io), 22 RH4/SEG40 (io), 23 RF1/AN6/C2OUT/SEG19 (io), 24 ENVREG (in), 25 AVDD (power), 26 AVSS (power), 27 RA3/AN3/VREF+ (io), 28 RA2/AN2/VREF- (io), 29 RA1/AN1/SEG18 (io), 30 RA0/AN0 (io), 31 VSS (power), 32 VDD (power), 33 RA5/AN4/SEG15 (io), 34 RA4/T0CKI/SEG14 (io), 35 RC1/T1OSI/CCP2I/SEG32 (io), 36 RC0/T1OSO/T13CKI (io), 37 RC6/TX1/CK1/SEG27 (io), 38 RC7/RX1/DT1/SEG28 (io), 39 RJ4/SEG39 (io), 40 RJ5/SEG38 (io), 41 RJ6/SEG37 (io), 42 RJ7/SEG36 (io), 43 RC2/CCP1/SEG13 (io), 44 RC3/SCK/SCL/SEG17 (io), 45 RC4/SDI/SDA/SEG16 (io), 46 RC5/SDO/SEG12 (io), 47 RB7/KBI3/PGD (io), 48 VDD (power), 49 OSC1/CLKI/RA7 (io), 50 OSC2/CLKO/RA6 (io), 51 VSS (power), 52 RB6/KBI2/PGC (io), 53 RB5/KBI1/SEG29 (io), 54 RB4/KBI0/SEG11 (io), 55 RB3/INT3/SEG10 (io), 56 RB2/INT2/SEG9 (io), 57 RB1/INT1/SEG8 (io), 58 RB0/INT0/SEG30 (io), 59 RJ3/SEG35 (io), 60 RJ2/SEG34 (io), 61 RJ1/SEG33 (io), 62 RJ0 (io), 63 RD7/SEG7 (io), 64 RD6/SEG6 (io), 65 RD5/SEG5 (io), 66 RD4/SEG4 (io), 67 RD3/SEG3 (io), 68 RD2/SEG2 (io), 69 RD1/SEG1 (io), 70 VSS (power), 71 VDD (power), 72 RD0/SEG0 (io), 73 RE7/CCP2/SEG31 (io), 74 RE6/COM3 (io), 75 RE5/COM2 (io), 76 RE4/COM1 (io), 77 RE3/COM0 (io), 78 LCDBIAS3 (in), 79 RH0/SEG47 (io), 80 RH1/SEG46 (io)

## PIC18F83J90T-I/PT
designator U?
High Performance Microcontroller with LCD Driver and nanoWatt Technology, 8K Flash, 80-Pin TQFP, Industrial Temperature Range, Tape and Reel; Manufacturer: Microchip; PartNumber: PIC18F83J90T-I/PT; DatasheetVersion: revB, Mar-2007; PackageVersion: C04-092B, 12/2012; PackageReference: TQFP-PT80; PackageDescription: 80-Lead Plastic Thin Quad FlatPack, 12 x 12 mm Body, 0.5 mm Pitch; ComponentLink1Description: Manufacturer URL; ComponentLink1URL: http://www.microchip.com/; ComponentLink2Description: Datasheet; ComponentLink2URL: http://ww1.microchip.com/downloads/en/DeviceDoc/39770b.pdf; ComponentLink3Description: Package Specification; ComponentLink3URL: http://www.microchip.com/stellent/groups/techpub_sg/documents/packagingspec/en012702.pdf
footprint MCHP-TQFP-PT80_N (QFN, 80-Leads, Body 12x12mm, Pitch 0.5mm, IPC Medium Density)
footprint MCHP-TQFP-PT80_L (QFN, 80-Leads, Body 12x12mm, Pitch 0.5mm, IPC High Density)
footprint MCHP-TQFP-PT80_M (QFN, 80-Leads, Body 12x12mm, Pitch 0.5mm, IPC Low Density)
pins: 1 RH2/SEG45 (io), 2 RH3/SEG44 (io), 3 RE1/LCDBIAS2 (io), 4 RE0/LCDBIAS1 (io), 5 RG0/LCDBIAS0 (io), 6 RG1/TX2/CK2 (io), 7 RG2/RX2/DT2/VLCAP1 (io), 8 RG3/VLCAP2 (io), 9 ~{MCLR} (in), 10 RG4/SEG26 (io), 11 VSS (power), 12 VDDCORE/VCAP (power), 13 RF7/AN5/~{SS}/SEG25 (io), 14 RF6/AN11/SEG24 (io), 15 RF5/AN10/CVREF/SEG23 (io), 16 RF4/AN9/SEG22 (io), 17 RF3/AN8/SEG21 (io), 18 RF2/AN7/C1OUT/SEG20 (io), 19 RH7/SEG43 (io), 20 RH6/SEG42 (io), 21 RH5/SEG41 (io), 22 RH4/SEG40 (io), 23 RF1/AN6/C2OUT/SEG19 (io), 24 ENVREG (in), 25 AVDD (power), 26 AVSS (power), 27 RA3/AN3/VREF+ (io), 28 RA2/AN2/VREF- (io), 29 RA1/AN1/SEG18 (io), 30 RA0/AN0 (io), 31 VSS (power), 32 VDD (power), 33 RA5/AN4/SEG15 (io), 34 RA4/T0CKI/SEG14 (io), 35 RC1/T1OSI/CCP2I/SEG32 (io), 36 RC0/T1OSO/T13CKI (io), 37 RC6/TX1/CK1/SEG27 (io), 38 RC7/RX1/DT1/SEG28 (io), 39 RJ4/SEG39 (io), 40 RJ5/SEG38 (io), 41 RJ6/SEG37 (io), 42 RJ7/SEG36 (io), 43 RC2/CCP1/SEG13 (io), 44 RC3/SCK/SCL/SEG17 (io), 45 RC4/SDI/SDA/SEG16 (io), 46 RC5/SDO/SEG12 (io), 47 RB7/KBI3/PGD (io), 48 VDD (power), 49 OSC1/CLKI/RA7 (io), 50 OSC2/CLKO/RA6 (io), 51 VSS (power), 52 RB6/KBI2/PGC (io), 53 RB5/KBI1/SEG29 (io), 54 RB4/KBI0/SEG11 (io), 55 RB3/INT3/SEG10 (io), 56 RB2/INT2/SEG9 (io), 57 RB1/INT1/SEG8 (io), 58 RB0/INT0/SEG30 (io), 59 RJ3/SEG35 (io), 60 RJ2/SEG34 (io), 61 RJ1/SEG33 (io), 62 RJ0 (io), 63 RD7/SEG7 (io), 64 RD6/SEG6 (io), 65 RD5/SEG5 (io), 66 RD4/SEG4 (io), 67 RD3/SEG3 (io), 68 RD2/SEG2 (io), 69 RD1/SEG1 (io), 70 VSS (power), 71 VDD (power), 72 RD0/SEG0 (io), 73 RE7/CCP2/SEG31 (io), 74 RE6/COM3 (io), 75 RE5/COM2 (io), 76 RE4/COM1 (io), 77 RE3/COM0 (io), 78 LCDBIAS3 (in), 79 RH0/SEG47 (io), 80 RH1/SEG46 (io)

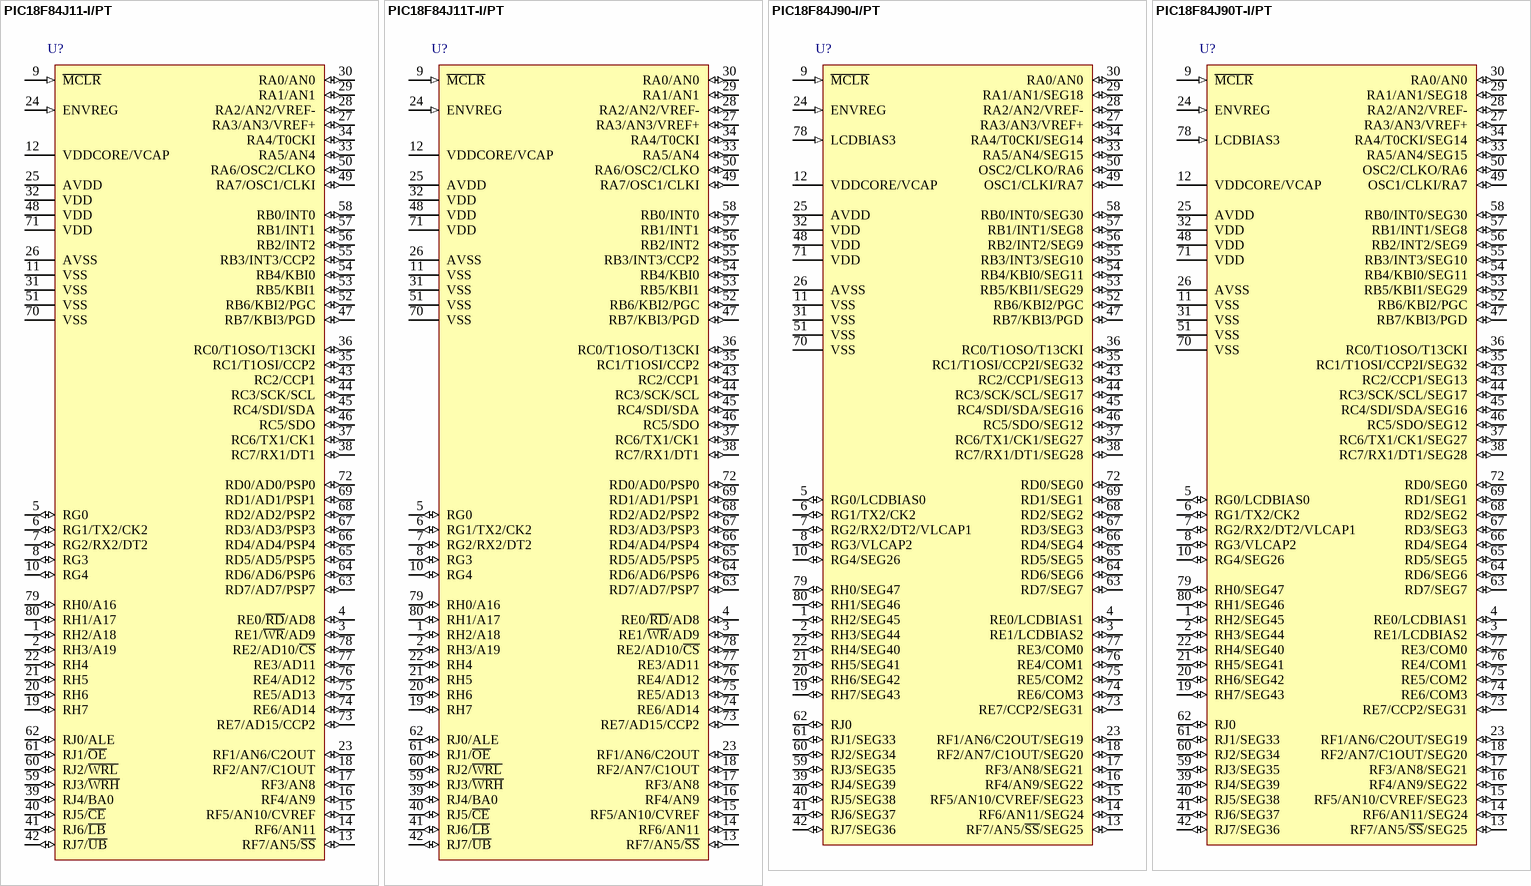
[diagram p63: symbols PIC18F84J11-I/PT to PIC18F84J90T-I/PT]

## PIC18F84J11-I/PT
designator U?
High Performance Microcontroller with nanoWatt Technology, 16K Flash, 80-Pin TQFP, Industrial Temperature Range; Manufacturer: Microchip; PartNumber: PIC18F84J11-I/PT; DatasheetVersion: revC, Apr-2007; PackageVersion: C04-092B, 12/2012; PackageReference: TQFP-PT80; PackageDescription: 80-Lead Plastic Thin Quad FlatPack, 12 x 12 mm Body, 0.5 mm Pitch; ComponentLink1Description: Manufacturer URL; ComponentLink1URL: http://www.microchip.com/; ComponentLink2Description: Datasheet; ComponentLink2URL: http://ww1.microchip.com/downloads/en/DeviceDoc/39774c.pdf; ComponentLink3Description: Package Specification; ComponentLink3URL: http://www.microchip.com/stellent/groups/techpub_sg/documents/packagingspec/en012702.pdf
footprint MCHP-TQFP-PT80_N (QFN, 80-Leads, Body 12x12mm, Pitch 0.5mm, IPC Medium Density)
footprint MCHP-TQFP-PT80_L (QFN, 80-Leads, Body 12x12mm, Pitch 0.5mm, IPC High Density)
footprint MCHP-TQFP-PT80_M (QFN, 80-Leads, Body 12x12mm, Pitch 0.5mm, IPC Low Density)
pins: 1 RH2/A18 (io), 2 RH3/A19 (io), 3 RE1/~{WR}/AD9 (io), 4 RE0/~{RD}/AD8 (io), 5 RG0 (io), 6 RG1/TX2/CK2 (io), 7 RG2/RX2/DT2 (io), 8 RG3 (io), 9 ~{MCLR} (in), 10 RG4 (io), 11 VSS (power), 12 VDDCORE/VCAP (power), 13 RF7/AN5/~{SS} (io), 14 RF6/AN11 (io), 15 RF5/AN10/CVREF (io), 16 RF4/AN9 (io), 17 RF3/AN8 (io), 18 RF2/AN7/C1OUT (io), 19 RH7 (io), 20 RH6 (io), 21 RH5 (io), 22 RH4 (io), 23 RF1/AN6/C2OUT (io), 24 ENVREG (in), 25 AVDD (power), 26 AVSS (power), 27 RA3/AN3/VREF+ (io), 28 RA2/AN2/VREF- (io), 29 RA1/AN1 (io), 30 RA0/AN0 (io), 31 VSS (power), 32 VDD (power), 33 RA5/AN4 (io), 34 RA4/T0CKI (io), 35 RC1/T1OSI/CCP2 (io), 36 RC0/T1OSO/T13CKI (io), 37 RC6/TX1/CK1 (io), 38 RC7/RX1/DT1 (io), 39 RJ4/BA0 (io), 40 RJ5/~{CE} (io), 41 RJ6/~{LB} (io), 42 RJ7/~{UB} (io), 43 RC2/CCP1 (io), 44 RC3/SCK/SCL (io), 45 RC4/SDI/SDA (io), 46 RC5/SDO (io), 47 RB7/KBI3/PGD (io), 48 VDD (power), 49 RA7/OSC1/CLKI (io), 50 RA6/OSC2/CLKO (io), 51 VSS (power), 52 RB6/KBI2/PGC (io), 53 RB5/KBI1 (io), 54 RB4/KBI0 (io), 55 RB3/INT3/CCP2 (io), 56 RB2/INT2 (io), 57 RB1/INT1 (io), 58 RB0/INT0 (io), 59 RJ3/~{WRH} (io), 60 RJ2/~{WRL} (io), 61 RJ1/~{OE} (io), 62 RJ0/ALE (io), 63 RD7/AD7/PSP7 (io), 64 RD6/AD6/PSP6 (io), 65 RD5/AD5/PSP5 (io), 66 RD4/AD4/PSP4 (io), 67 RD3/AD3/PSP3 (io), 68 RD2/AD2/PSP2 (io), 69 RD1/AD1/PSP1 (io), 70 VSS (power), 71 VDD (power), 72 RD0/AD0/PSP0 (io), 73 RE7/AD15/CCP2 (io), 74 RE6/AD14 (io), 75 RE5/AD13 (io), 76 RE4/AD12 (io), 77 RE3/AD11 (io), 78 RE2/AD10/~{CS} (io), 79 RH0/A16 (io), 80 RH1/A17 (io)

## PIC18F84J11T-I/PT
designator U?
High Performance Microcontroller with nanoWatt Technology, 16K Flash, 80-Pin TQFP, Industrial Temperature Range, Tape and Reel; Manufacturer: Microchip; PartNumber: PIC18F84J11T-I/PT; DatasheetVersion: revC, Apr-2007; PackageVersion: C04-092B, 12/2012; PackageReference: TQFP-PT80; PackageDescription: 80-Lead Plastic Thin Quad FlatPack, 12 x 12 mm Body, 0.5 mm Pitch; ComponentLink1Description: Manufacturer URL; ComponentLink1URL: http://www.microchip.com/; ComponentLink2Description: Datasheet; ComponentLink2URL: http://ww1.microchip.com/downloads/en/DeviceDoc/39774c.pdf; ComponentLink3Description: Package Specification; ComponentLink3URL: http://www.microchip.com/stellent/groups/techpub_sg/documents/packagingspec/en012702.pdf
footprint MCHP-TQFP-PT80_N (QFN, 80-Leads, Body 12x12mm, Pitch 0.5mm, IPC Medium Density)
footprint MCHP-TQFP-PT80_L (QFN, 80-Leads, Body 12x12mm, Pitch 0.5mm, IPC High Density)
footprint MCHP-TQFP-PT80_M (QFN, 80-Leads, Body 12x12mm, Pitch 0.5mm, IPC Low Density)
pins: 1 RH2/A18 (io), 2 RH3/A19 (io), 3 RE1/~{WR}/AD9 (io), 4 RE0/~{RD}/AD8 (io), 5 RG0 (io), 6 RG1/TX2/CK2 (io), 7 RG2/RX2/DT2 (io), 8 RG3 (io), 9 ~{MCLR} (in), 10 RG4 (io), 11 VSS (power), 12 VDDCORE/VCAP (power), 13 RF7/AN5/~{SS} (io), 14 RF6/AN11 (io), 15 RF5/AN10/CVREF (io), 16 RF4/AN9 (io), 17 RF3/AN8 (io), 18 RF2/AN7/C1OUT (io), 19 RH7 (io), 20 RH6 (io), 21 RH5 (io), 22 RH4 (io), 23 RF1/AN6/C2OUT (io), 24 ENVREG (in), 25 AVDD (power), 26 AVSS (power), 27 RA3/AN3/VREF+ (io), 28 RA2/AN2/VREF- (io), 29 RA1/AN1 (io), 30 RA0/AN0 (io), 31 VSS (power), 32 VDD (power), 33 RA5/AN4 (io), 34 RA4/T0CKI (io), 35 RC1/T1OSI/CCP2 (io), 36 RC0/T1OSO/T13CKI (io), 37 RC6/TX1/CK1 (io), 38 RC7/RX1/DT1 (io), 39 RJ4/BA0 (io), 40 RJ5/~{CE} (io), 41 RJ6/~{LB} (io), 42 RJ7/~{UB} (io), 43 RC2/CCP1 (io), 44 RC3/SCK/SCL (io), 45 RC4/SDI/SDA (io), 46 RC5/SDO (io), 47 RB7/KBI3/PGD (io), 48 VDD (power), 49 RA7/OSC1/CLKI (io), 50 RA6/OSC2/CLKO (io), 51 VSS (power), 52 RB6/KBI2/PGC (io), 53 RB5/KBI1 (io), 54 RB4/KBI0 (io), 55 RB3/INT3/CCP2 (io), 56 RB2/INT2 (io), 57 RB1/INT1 (io), 58 RB0/INT0 (io), 59 RJ3/~{WRH} (io), 60 RJ2/~{WRL} (io), 61 RJ1/~{OE} (io), 62 RJ0/ALE (io), 63 RD7/AD7/PSP7 (io), 64 RD6/AD6/PSP6 (io), 65 RD5/AD5/PSP5 (io), 66 RD4/AD4/PSP4 (io), 67 RD3/AD3/PSP3 (io), 68 RD2/AD2/PSP2 (io), 69 RD1/AD1/PSP1 (io), 70 VSS (power), 71 VDD (power), 72 RD0/AD0/PSP0 (io), 73 RE7/AD15/CCP2 (io), 74 RE6/AD14 (io), 75 RE5/AD13 (io), 76 RE4/AD12 (io), 77 RE3/AD11 (io), 78 RE2/AD10/~{CS} (io), 79 RH0/A16 (io), 80 RH1/A17 (io)

## PIC18F84J90-I/PT
designator U?
High Performance Microcontroller with LCD Driver and nanoWatt Technology, 16K Flash, 80-Pin TQFP, Industrial Temperature Range; Manufacturer: Microchip; PartNumber: PIC18F84J90-I/PT; DatasheetVersion: revB, Mar-2007; PackageVersion: C04-092B, 12/2012; PackageReference: TQFP-PT80; PackageDescription: 80-Lead Plastic Thin Quad FlatPack, 12 x 12 mm Body, 0.5 mm Pitch; ComponentLink1Description: Manufacturer URL; ComponentLink1URL: http://www.microchip.com/; ComponentLink2Description: Datasheet; ComponentLink2URL: http://ww1.microchip.com/downloads/en/DeviceDoc/39770b.pdf; ComponentLink3Description: Package Specification; ComponentLink3URL: http://www.microchip.com/stellent/groups/techpub_sg/documents/packagingspec/en012702.pdf
footprint MCHP-TQFP-PT80_N (QFN, 80-Leads, Body 12x12mm, Pitch 0.5mm, IPC Medium Density)
footprint MCHP-TQFP-PT80_L (QFN, 80-Leads, Body 12x12mm, Pitch 0.5mm, IPC High Density)
footprint MCHP-TQFP-PT80_M (QFN, 80-Leads, Body 12x12mm, Pitch 0.5mm, IPC Low Density)
pins: 1 RH2/SEG45 (io), 2 RH3/SEG44 (io), 3 RE1/LCDBIAS2 (io), 4 RE0/LCDBIAS1 (io), 5 RG0/LCDBIAS0 (io), 6 RG1/TX2/CK2 (io), 7 RG2/RX2/DT2/VLCAP1 (io), 8 RG3/VLCAP2 (io), 9 ~{MCLR} (in), 10 RG4/SEG26 (io), 11 VSS (power), 12 VDDCORE/VCAP (power), 13 RF7/AN5/~{SS}/SEG25 (io), 14 RF6/AN11/SEG24 (io), 15 RF5/AN10/CVREF/SEG23 (io), 16 RF4/AN9/SEG22 (io), 17 RF3/AN8/SEG21 (io), 18 RF2/AN7/C1OUT/SEG20 (io), 19 RH7/SEG43 (io), 20 RH6/SEG42 (io), 21 RH5/SEG41 (io), 22 RH4/SEG40 (io), 23 RF1/AN6/C2OUT/SEG19 (io), 24 ENVREG (in), 25 AVDD (power), 26 AVSS (power), 27 RA3/AN3/VREF+ (io), 28 RA2/AN2/VREF- (io), 29 RA1/AN1/SEG18 (io), 30 RA0/AN0 (io), 31 VSS (power), 32 VDD (power), 33 RA5/AN4/SEG15 (io), 34 RA4/T0CKI/SEG14 (io), 35 RC1/T1OSI/CCP2I/SEG32 (io), 36 RC0/T1OSO/T13CKI (io), 37 RC6/TX1/CK1/SEG27 (io), 38 RC7/RX1/DT1/SEG28 (io), 39 RJ4/SEG39 (io), 40 RJ5/SEG38 (io), 41 RJ6/SEG37 (io), 42 RJ7/SEG36 (io), 43 RC2/CCP1/SEG13 (io), 44 RC3/SCK/SCL/SEG17 (io), 45 RC4/SDI/SDA/SEG16 (io), 46 RC5/SDO/SEG12 (io), 47 RB7/KBI3/PGD (io), 48 VDD (power), 49 OSC1/CLKI/RA7 (io), 50 OSC2/CLKO/RA6 (io), 51 VSS (power), 52 RB6/KBI2/PGC (io), 53 RB5/KBI1/SEG29 (io), 54 RB4/KBI0/SEG11 (io), 55 RB3/INT3/SEG10 (io), 56 RB2/INT2/SEG9 (io), 57 RB1/INT1/SEG8 (io), 58 RB0/INT0/SEG30 (io), 59 RJ3/SEG35 (io), 60 RJ2/SEG34 (io), 61 RJ1/SEG33 (io), 62 RJ0 (io), 63 RD7/SEG7 (io), 64 RD6/SEG6 (io), 65 RD5/SEG5 (io), 66 RD4/SEG4 (io), 67 RD3/SEG3 (io), 68 RD2/SEG2 (io), 69 RD1/SEG1 (io), 70 VSS (power), 71 VDD (power), 72 RD0/SEG0 (io), 73 RE7/CCP2/SEG31 (io), 74 RE6/COM3 (io), 75 RE5/COM2 (io), 76 RE4/COM1 (io), 77 RE3/COM0 (io), 78 LCDBIAS3 (in), 79 RH0/SEG47 (io), 80 RH1/SEG46 (io)

## PIC18F84J90T-I/PT
designator U?
High Performance Microcontroller with LCD Driver and nanoWatt Technology, 16K Flash, 80-Pin TQFP, Industrial Temperature Range, Tape and Reel; Manufacturer: Microchip; PartNumber: PIC18F84J90T-I/PT; DatasheetVersion: revB, Mar-2007; PackageVersion: C04-092B, 12/2012; PackageReference: TQFP-PT80; PackageDescription: 80-Lead Plastic Thin Quad FlatPack, 12 x 12 mm Body, 0.5 mm Pitch; ComponentLink1Description: Manufacturer URL; ComponentLink1URL: http://www.microchip.com/; ComponentLink2Description: Datasheet; ComponentLink2URL: http://ww1.microchip.com/downloads/en/DeviceDoc/39770b.pdf; ComponentLink3Description: Package Specification; ComponentLink3URL: http://www.microchip.com/stellent/groups/techpub_sg/documents/packagingspec/en012702.pdf
footprint MCHP-TQFP-PT80_N (QFN, 80-Leads, Body 12x12mm, Pitch 0.5mm, IPC Medium Density)
footprint MCHP-TQFP-PT80_L (QFN, 80-Leads, Body 12x12mm, Pitch 0.5mm, IPC High Density)
footprint MCHP-TQFP-PT80_M (QFN, 80-Leads, Body 12x12mm, Pitch 0.5mm, IPC Low Density)
pins: 1 RH2/SEG45 (io), 2 RH3/SEG44 (io), 3 RE1/LCDBIAS2 (io), 4 RE0/LCDBIAS1 (io), 5 RG0/LCDBIAS0 (io), 6 RG1/TX2/CK2 (io), 7 RG2/RX2/DT2/VLCAP1 (io), 8 RG3/VLCAP2 (io), 9 ~{MCLR} (in), 10 RG4/SEG26 (io), 11 VSS (power), 12 VDDCORE/VCAP (power), 13 RF7/AN5/~{SS}/SEG25 (io), 14 RF6/AN11/SEG24 (io), 15 RF5/AN10/CVREF/SEG23 (io), 16 RF4/AN9/SEG22 (io), 17 RF3/AN8/SEG21 (io), 18 RF2/AN7/C1OUT/SEG20 (io), 19 RH7/SEG43 (io), 20 RH6/SEG42 (io), 21 RH5/SEG41 (io), 22 RH4/SEG40 (io), 23 RF1/AN6/C2OUT/SEG19 (io), 24 ENVREG (in), 25 AVDD (power), 26 AVSS (power), 27 RA3/AN3/VREF+ (io), 28 RA2/AN2/VREF- (io), 29 RA1/AN1/SEG18 (io), 30 RA0/AN0 (io), 31 VSS (power), 32 VDD (power), 33 RA5/AN4/SEG15 (io), 34 RA4/T0CKI/SEG14 (io), 35 RC1/T1OSI/CCP2I/SEG32 (io), 36 RC0/T1OSO/T13CKI (io), 37 RC6/TX1/CK1/SEG27 (io), 38 RC7/RX1/DT1/SEG28 (io), 39 RJ4/SEG39 (io), 40 RJ5/SEG38 (io), 41 RJ6/SEG37 (io), 42 RJ7/SEG36 (io), 43 RC2/CCP1/SEG13 (io), 44 RC3/SCK/SCL/SEG17 (io), 45 RC4/SDI/SDA/SEG16 (io), 46 RC5/SDO/SEG12 (io), 47 RB7/KBI3/PGD (io), 48 VDD (power), 49 OSC1/CLKI/RA7 (io), 50 OSC2/CLKO/RA6 (io), 51 VSS (power), 52 RB6/KBI2/PGC (io), 53 RB5/KBI1/SEG29 (io), 54 RB4/KBI0/SEG11 (io), 55 RB3/INT3/SEG10 (io), 56 RB2/INT2/SEG9 (io), 57 RB1/INT1/SEG8 (io), 58 RB0/INT0/SEG30 (io), 59 RJ3/SEG35 (io), 60 RJ2/SEG34 (io), 61 RJ1/SEG33 (io), 62 RJ0 (io), 63 RD7/SEG7 (io), 64 RD6/SEG6 (io), 65 RD5/SEG5 (io), 66 RD4/SEG4 (io), 67 RD3/SEG3 (io), 68 RD2/SEG2 (io), 69 RD1/SEG1 (io), 70 VSS (power), 71 VDD (power), 72 RD0/SEG0 (io), 73 RE7/CCP2/SEG31 (io), 74 RE6/COM3 (io), 75 RE5/COM2 (io), 76 RE4/COM1 (io), 77 RE3/COM0 (io), 78 LCDBIAS3 (in), 79 RH0/SEG47 (io), 80 RH1/SEG46 (io)

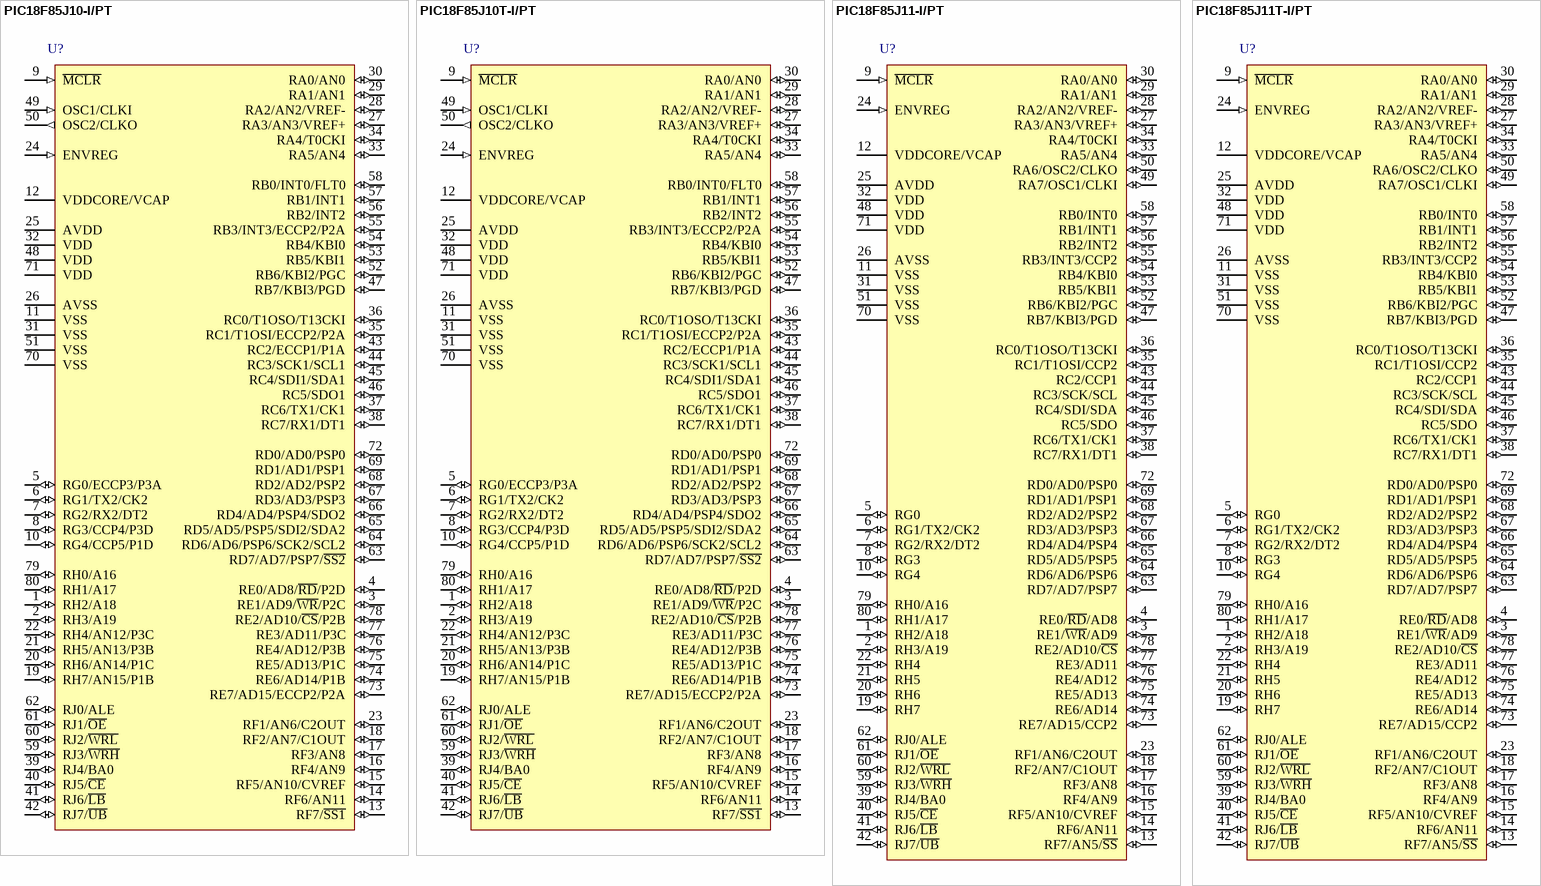
[diagram p64: symbols PIC18F85J10-I/PT to PIC18F85J11T-I/PT]